# Altium integrated library Actel IGLOO PLUS.IntLib: 96 symbols (part 1 of 11)
Pins are listed as number, name and electrical type; pins without a type are passive.

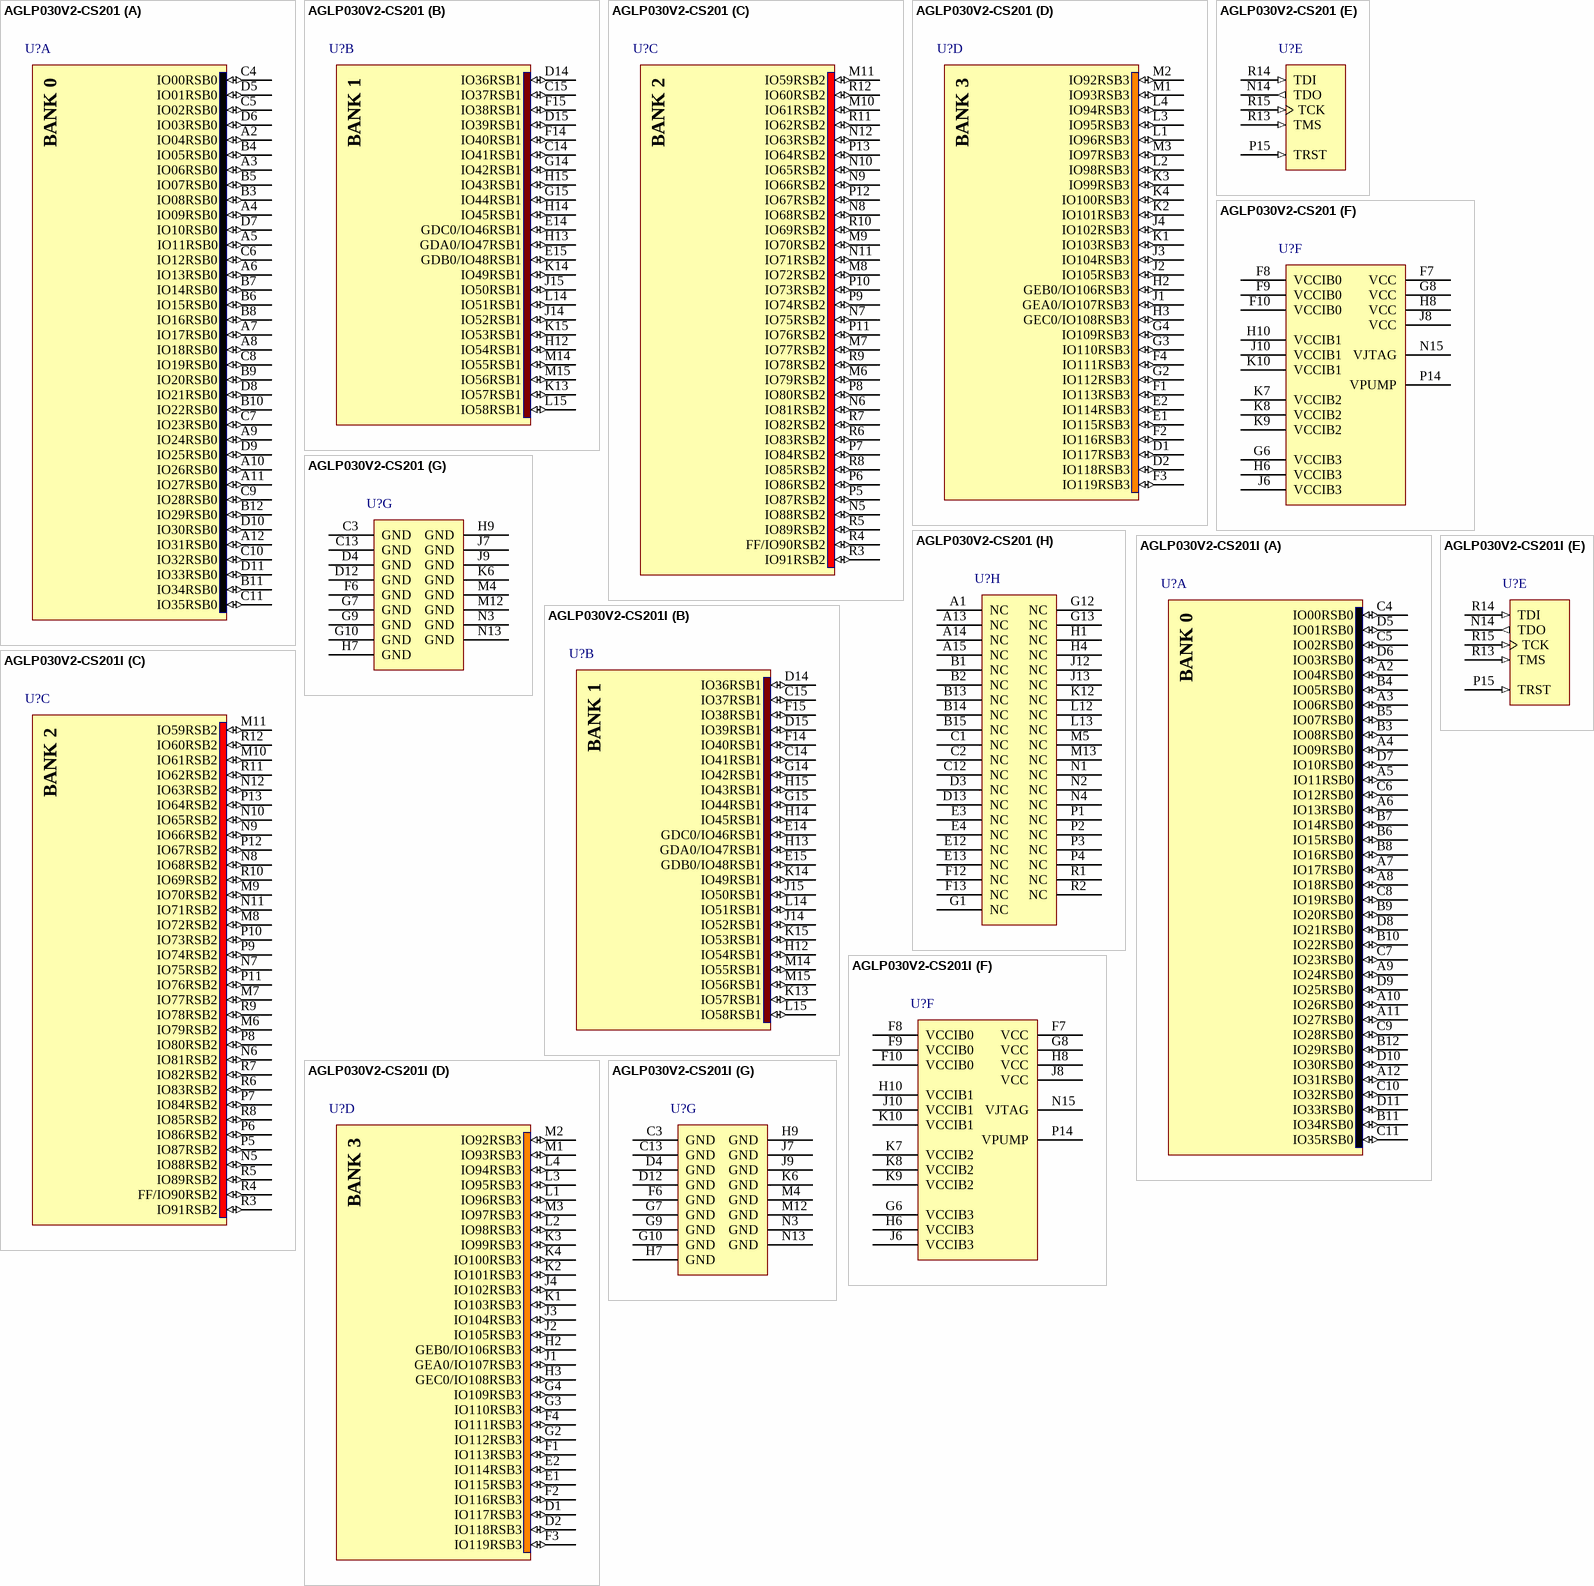
[diagram p0: symbols AGLP030V2-CS201 to AGLP030V2-CS201I]

## AGLP030V2-CS201
designator U?
IGLOO PLUS Low-Power Flash 1.2 to 1.5V FPGA with Flash*Freeze, 120 User IOs, 30K System Gates, 1Kbit Flash ROM, 201-Pin CSP, Commercial Grade; Published: 29-May-2009; DatasheetVersion: Feb-2009; PackageVersion: v11.0, Feb-2009; PackageReference: CS201; Publisher: Altium Limited; PackageDescription: 201-Ball Chip Scale Package 0.5 mm Pitch (CS201); Code_JEDEC: MO-195-AE (Depopulated); ComponentLink1Description: Manufacturer Link; ComponentLink1URL: http://www.actel.com/products/iglooplus/default.aspx; ComponentLink2Description: Datasheet; ComponentLink2URL: http://www.actel.com/documents/IGLOOPLUS_DS.pdf
footprint CS201 (BGA, 201-Leads, Body 8x8mm, Pitch 0.5mm)
3D model AGLP030-CS201 (201-Ball Chip Scale Package 0.5 mm Pitch (CS201))
signal-integrity model AGLP030-CS201 (IGLOO PLUS)
part A pins: A2 IO04RSB0 (io), A3 IO06RSB0 (io), A4 IO09RSB0 (io), A5 IO11RSB0 (io), A6 IO13RSB0 (io), A7 IO17RSB0 (io), A8 IO18RSB0 (io), A9 IO24RSB0 (io), A10 IO26RSB0 (io), A11 IO27RSB0 (io), A12 IO31RSB0 (io), B3 IO08RSB0 (io), B4 IO05RSB0 (io), B5 IO07RSB0 (io), B6 IO15RSB0 (io), B7 IO14RSB0 (io), B8 IO16RSB0 (io), B9 IO20RSB0 (io), B10 IO22RSB0 (io), B11 IO34RSB0 (io), B12 IO29RSB0 (io), C4 IO00RSB0 (io), C5 IO02RSB0 (io), C6 IO12RSB0 (io), C7 IO23RSB0 (io), C8 IO19RSB0 (io), C9 IO28RSB0 (io), C10 IO32RSB0 (io), C11 IO35RSB0 (io), D5 IO01RSB0 (io), D6 IO03RSB0 (io), D7 IO10RSB0 (io), D8 IO21RSB0 (io), D9 IO25RSB0 (io), D10 IO30RSB0 (io), D11 IO33RSB0 (io)
part B pins: C14 IO41RSB1 (io), C15 IO37RSB1 (io), D14 IO36RSB1 (io), D15 IO39RSB1 (io), E14 GDC0/IO46RSB1 (io), E15 GDB0/IO48RSB1 (io), F14 IO40RSB1 (io), F15 IO38RSB1 (io), G14 IO42RSB1 (io), G15 IO44RSB1 (io), H12 IO54RSB1 (io), H13 GDA0/IO47RSB1 (io), H14 IO45RSB1 (io), H15 IO43RSB1 (io), J14 IO52RSB1 (io), J15 IO50RSB1 (io), K13 IO57RSB1 (io), K14 IO49RSB1 (io), K15 IO53RSB1 (io), L14 IO51RSB1 (io), L15 IO58RSB1 (io), M14 IO55RSB1 (io), M15 IO56RSB1 (io)
part C pins: M6 IO79RSB2 (io), M7 IO77RSB2 (io), M8 IO72RSB2 (io), M9 IO70RSB2 (io), M10 IO61RSB2 (io), M11 IO59RSB2 (io), N5 IO88RSB2 (io), N6 IO81RSB2 (io), N7 IO75RSB2 (io), N8 IO68RSB2 (io), N9 IO66RSB2 (io), N10 IO65RSB2 (io), N11 IO71RSB2 (io), N12 IO63RSB2 (io), P5 IO87RSB2 (io), P6 IO86RSB2 (io), P7 IO84RSB2 (io), P8 IO80RSB2 (io), P9 IO74RSB2 (io), P10 IO73RSB2 (io), P11 IO76RSB2 (io), P12 IO67RSB2 (io), P13 IO64RSB2 (io), R3 IO91RSB2 (io), R4 FF/IO90RSB2 (io), R5 IO89RSB2 (io), R6 IO83RSB2 (io), R7 IO82RSB2 (io), R8 IO85RSB2 (io), R9 IO78RSB2 (io), R10 IO69RSB2 (io), R11 IO62RSB2 (io), R12 IO60RSB2 (io)
part D pins: D1 IO117RSB3 (io), D2 IO118RSB3 (io), E1 IO115RSB3 (io), E2 IO114RSB3 (io), F1 IO113RSB3 (io), F2 IO116RSB3 (io), F3 IO119RSB3 (io), F4 IO111RSB3 (io), G2 IO112RSB3 (io), G3 IO110RSB3 (io), G4 IO109RSB3 (io), H2 GEB0/IO106RSB3 (io), H3 GEC0/IO108RSB3 (io), J1 GEA0/IO107RSB3 (io), J2 IO105RSB3 (io), J3 IO104RSB3 (io), J4 IO102RSB3 (io), K1 IO103RSB3 (io), K2 IO101RSB3 (io), K3 IO99RSB3 (io), K4 IO100RSB3 (io), L1 IO96RSB3 (io), L2 IO98RSB3 (io), L3 IO95RSB3 (io), L4 IO94RSB3 (io), M1 IO93RSB3 (io), M2 IO92RSB3 (io), M3 IO97RSB3 (io)
part E pins: N14 TDO (out), P15 TRST (in), R13 TMS (in), R14 TDI (in), R15 TCK (in)
part F pins: F7 VCC (power), F8 VCCIB0 (power), F9 VCCIB0 (power), F10 VCCIB0 (power), G6 VCCIB3 (power), G8 VCC (power), H6 VCCIB3 (power), H8 VCC (power), H10 VCCIB1 (power), J6 VCCIB3 (power), J8 VCC (power), J10 VCCIB1 (power), K7 VCCIB2 (power), K8 VCCIB2 (power), K9 VCCIB2 (power), K10 VCCIB1 (power), N15 VJTAG (power), P14 VPUMP (power)
part G pins: C3 GND (power), C13 GND (power), D4 GND (power), D12 GND (power), F6 GND (power), G7 GND (power), G9 GND (power), G10 GND (power), H7 GND (power), H9 GND (power), J7 GND (power), J9 GND (power), K6 GND (power), M4 GND (power), M12 GND (power), N3 GND (power), N13 GND (power)
part H pins: A1 NC, A13 NC, A14 NC, A15 NC, B1 NC, B2 NC, B13 NC, B14 NC, B15 NC, C1 NC, C2 NC, C12 NC, D3 NC, D13 NC, E3 NC, E4 NC, E12 NC, E13 NC, F12 NC, F13 NC, G1 NC, G12 NC, G13 NC, H1 NC, H4 NC, J12 NC, J13 NC, K12 NC, L12 NC, L13 NC, M5 NC, M13 NC, N1 NC, N2 NC, N4 NC, P1 NC, P2 NC, P3 NC, P4 NC, R1 NC, R2 NC
part A text: BANK 0
part B text: BANK 1
part C text: BANK 2
part D text: BANK 3

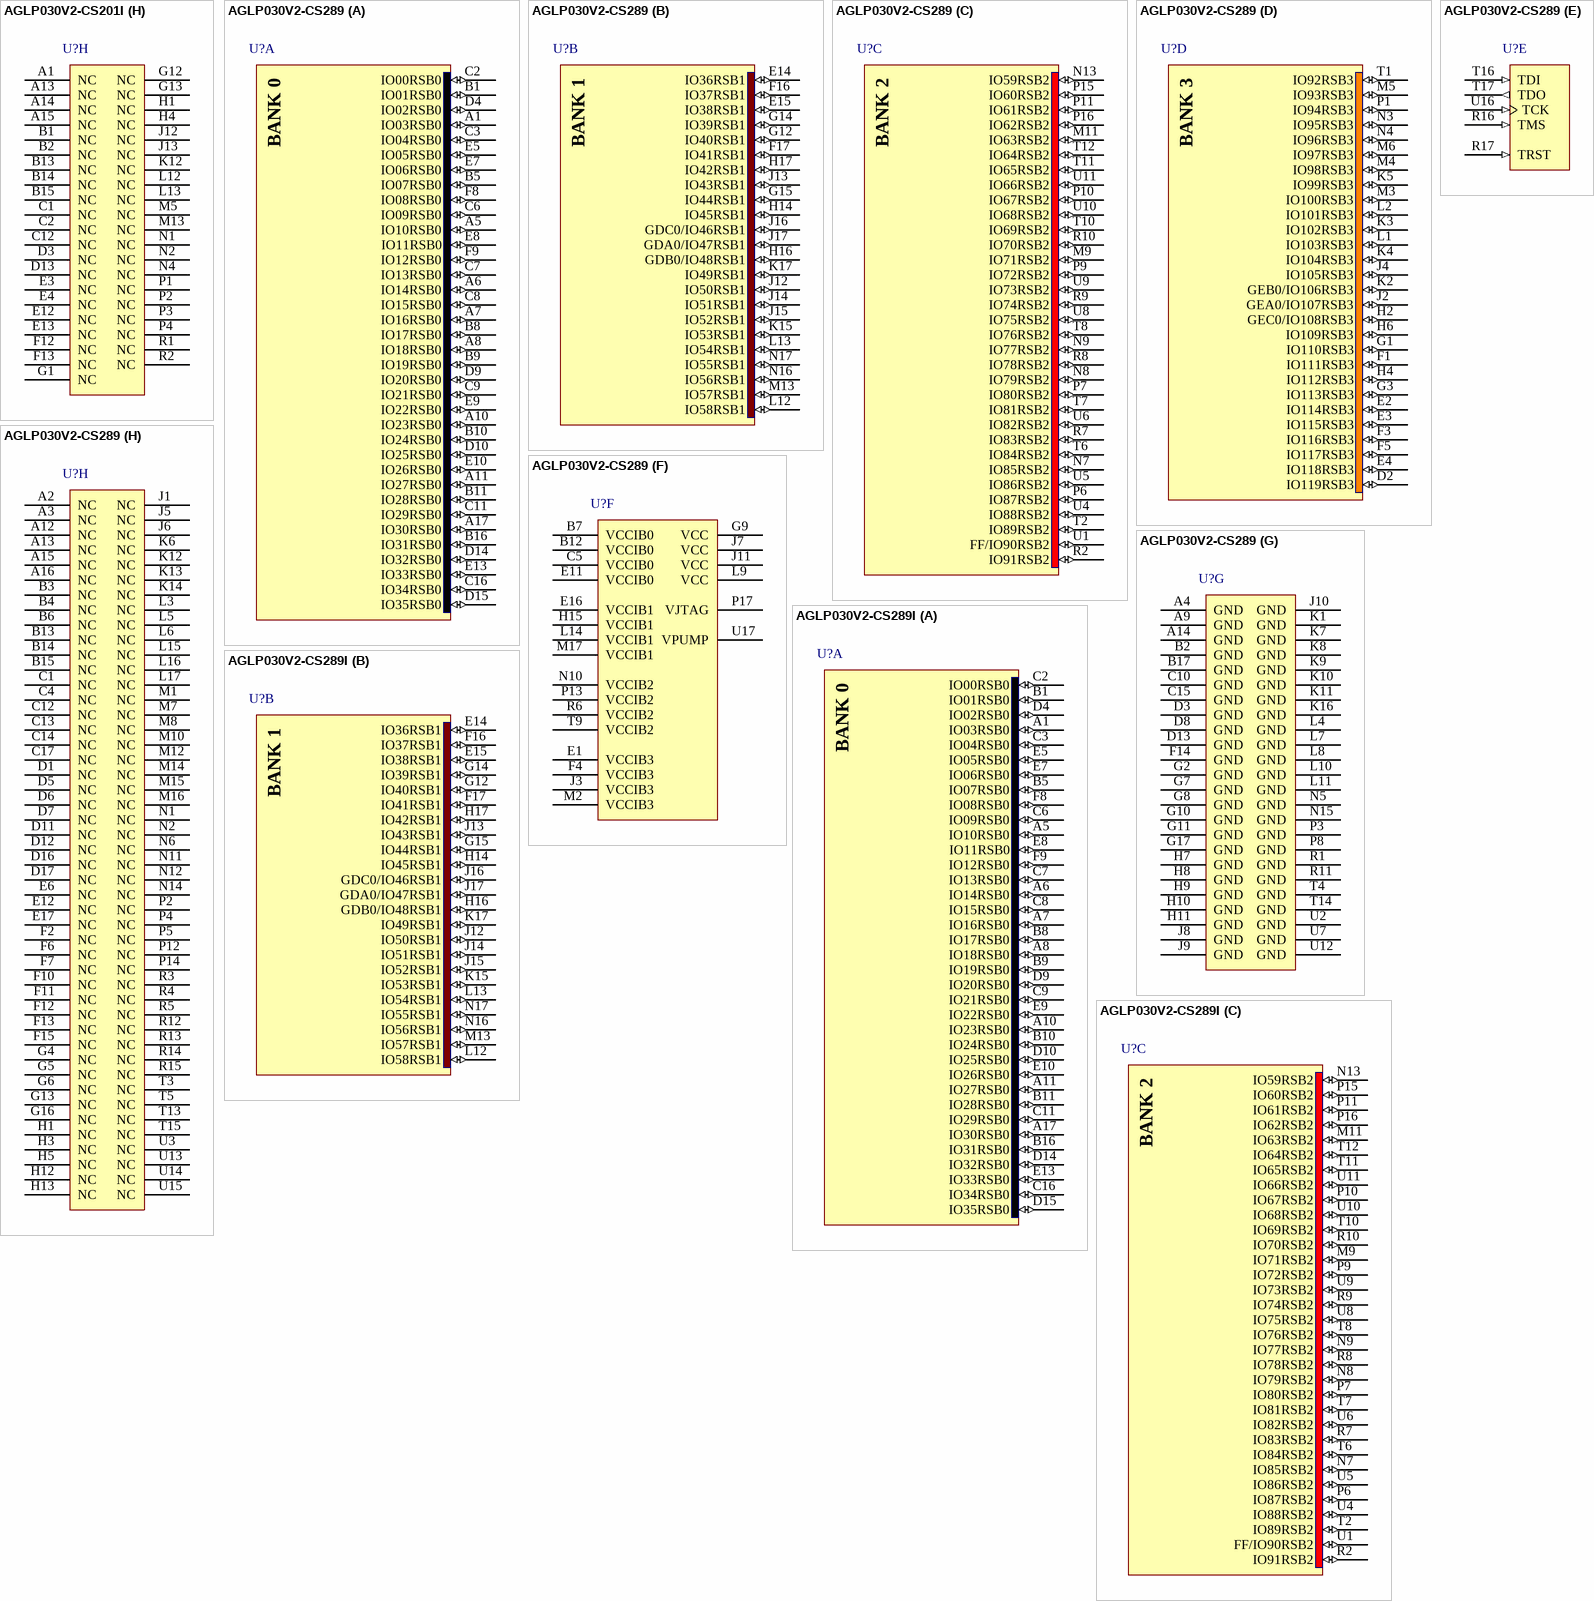
[diagram p1: symbols AGLP030V2-CS201I to AGLP030V2-CS289I]

## AGLP030V2-CS201I
designator U?
IGLOO PLUS Low-Power Flash 1.2 to 1.5V FPGA with Flash*Freeze, 120 User IOs, 30K System Gates, 1Kbit Flash ROM, 201-Pin CSP, Industrial Grade; Published: 29-May-2009; DatasheetVersion: Feb-2009; PackageVersion: v11.0, Feb-2009; PackageReference: CS201; Publisher: Altium Limited; PackageDescription: 201-Ball Chip Scale Package 0.5 mm Pitch (CS201); Code_JEDEC: MO-195-AE (Depopulated); ComponentLink1Description: Manufacturer Link; ComponentLink1URL: http://www.actel.com/products/iglooplus/default.aspx; ComponentLink2Description: Datasheet; ComponentLink2URL: http://www.actel.com/documents/IGLOOPLUS_DS.pdf
footprint CS201 (BGA, 201-Leads, Body 8x8mm, Pitch 0.5mm)
3D model AGLP030-CS201 (201-Ball Chip Scale Package 0.5 mm Pitch (CS201))
signal-integrity model AGLP030-CS201 (IGLOO PLUS)
part A pins: A2 IO04RSB0 (io), A3 IO06RSB0 (io), A4 IO09RSB0 (io), A5 IO11RSB0 (io), A6 IO13RSB0 (io), A7 IO17RSB0 (io), A8 IO18RSB0 (io), A9 IO24RSB0 (io), A10 IO26RSB0 (io), A11 IO27RSB0 (io), A12 IO31RSB0 (io), B3 IO08RSB0 (io), B4 IO05RSB0 (io), B5 IO07RSB0 (io), B6 IO15RSB0 (io), B7 IO14RSB0 (io), B8 IO16RSB0 (io), B9 IO20RSB0 (io), B10 IO22RSB0 (io), B11 IO34RSB0 (io), B12 IO29RSB0 (io), C4 IO00RSB0 (io), C5 IO02RSB0 (io), C6 IO12RSB0 (io), C7 IO23RSB0 (io), C8 IO19RSB0 (io), C9 IO28RSB0 (io), C10 IO32RSB0 (io), C11 IO35RSB0 (io), D5 IO01RSB0 (io), D6 IO03RSB0 (io), D7 IO10RSB0 (io), D8 IO21RSB0 (io), D9 IO25RSB0 (io), D10 IO30RSB0 (io), D11 IO33RSB0 (io)
part B pins: C14 IO41RSB1 (io), C15 IO37RSB1 (io), D14 IO36RSB1 (io), D15 IO39RSB1 (io), E14 GDC0/IO46RSB1 (io), E15 GDB0/IO48RSB1 (io), F14 IO40RSB1 (io), F15 IO38RSB1 (io), G14 IO42RSB1 (io), G15 IO44RSB1 (io), H12 IO54RSB1 (io), H13 GDA0/IO47RSB1 (io), H14 IO45RSB1 (io), H15 IO43RSB1 (io), J14 IO52RSB1 (io), J15 IO50RSB1 (io), K13 IO57RSB1 (io), K14 IO49RSB1 (io), K15 IO53RSB1 (io), L14 IO51RSB1 (io), L15 IO58RSB1 (io), M14 IO55RSB1 (io), M15 IO56RSB1 (io)
part C pins: M6 IO79RSB2 (io), M7 IO77RSB2 (io), M8 IO72RSB2 (io), M9 IO70RSB2 (io), M10 IO61RSB2 (io), M11 IO59RSB2 (io), N5 IO88RSB2 (io), N6 IO81RSB2 (io), N7 IO75RSB2 (io), N8 IO68RSB2 (io), N9 IO66RSB2 (io), N10 IO65RSB2 (io), N11 IO71RSB2 (io), N12 IO63RSB2 (io), P5 IO87RSB2 (io), P6 IO86RSB2 (io), P7 IO84RSB2 (io), P8 IO80RSB2 (io), P9 IO74RSB2 (io), P10 IO73RSB2 (io), P11 IO76RSB2 (io), P12 IO67RSB2 (io), P13 IO64RSB2 (io), R3 IO91RSB2 (io), R4 FF/IO90RSB2 (io), R5 IO89RSB2 (io), R6 IO83RSB2 (io), R7 IO82RSB2 (io), R8 IO85RSB2 (io), R9 IO78RSB2 (io), R10 IO69RSB2 (io), R11 IO62RSB2 (io), R12 IO60RSB2 (io)
part D pins: D1 IO117RSB3 (io), D2 IO118RSB3 (io), E1 IO115RSB3 (io), E2 IO114RSB3 (io), F1 IO113RSB3 (io), F2 IO116RSB3 (io), F3 IO119RSB3 (io), F4 IO111RSB3 (io), G2 IO112RSB3 (io), G3 IO110RSB3 (io), G4 IO109RSB3 (io), H2 GEB0/IO106RSB3 (io), H3 GEC0/IO108RSB3 (io), J1 GEA0/IO107RSB3 (io), J2 IO105RSB3 (io), J3 IO104RSB3 (io), J4 IO102RSB3 (io), K1 IO103RSB3 (io), K2 IO101RSB3 (io), K3 IO99RSB3 (io), K4 IO100RSB3 (io), L1 IO96RSB3 (io), L2 IO98RSB3 (io), L3 IO95RSB3 (io), L4 IO94RSB3 (io), M1 IO93RSB3 (io), M2 IO92RSB3 (io), M3 IO97RSB3 (io)
part E pins: N14 TDO (out), P15 TRST (in), R13 TMS (in), R14 TDI (in), R15 TCK (in)
part F pins: F7 VCC (power), F8 VCCIB0 (power), F9 VCCIB0 (power), F10 VCCIB0 (power), G6 VCCIB3 (power), G8 VCC (power), H6 VCCIB3 (power), H8 VCC (power), H10 VCCIB1 (power), J6 VCCIB3 (power), J8 VCC (power), J10 VCCIB1 (power), K7 VCCIB2 (power), K8 VCCIB2 (power), K9 VCCIB2 (power), K10 VCCIB1 (power), N15 VJTAG (power), P14 VPUMP (power)
part G pins: C3 GND (power), C13 GND (power), D4 GND (power), D12 GND (power), F6 GND (power), G7 GND (power), G9 GND (power), G10 GND (power), H7 GND (power), H9 GND (power), J7 GND (power), J9 GND (power), K6 GND (power), M4 GND (power), M12 GND (power), N3 GND (power), N13 GND (power)
part H pins: A1 NC, A13 NC, A14 NC, A15 NC, B1 NC, B2 NC, B13 NC, B14 NC, B15 NC, C1 NC, C2 NC, C12 NC, D3 NC, D13 NC, E3 NC, E4 NC, E12 NC, E13 NC, F12 NC, F13 NC, G1 NC, G12 NC, G13 NC, H1 NC, H4 NC, J12 NC, J13 NC, K12 NC, L12 NC, L13 NC, M5 NC, M13 NC, N1 NC, N2 NC, N4 NC, P1 NC, P2 NC, P3 NC, P4 NC, R1 NC, R2 NC
part A text: BANK 0
part B text: BANK 1
part C text: BANK 2
part D text: BANK 3

## AGLP030V2-CS289
designator U?
IGLOO PLUS Low-Power Flash 1.2 to 1.5V FPGA with Flash*Freeze, 120 User IOs, 30K System Gates, 1Kbit Flash ROM, 289-Pin CSP, Commercial Grade; Published: 29-May-2009; DatasheetVersion: Feb-2009; PackageVersion: v11.0, Feb-2009; PackageReference: CS289; Publisher: Altium Limited; PackageDescription: 289-Ball Chip Scale Package 0.8 mm Pitch (CS289); ComponentLink1Description: Manufacturer Link; ComponentLink1URL: http://www.actel.com/products/iglooplus/default.aspx; ComponentLink2Description: Datasheet; ComponentLink2URL: http://www.actel.com/documents/IGLOOPLUS_DS.pdf
footprint CS289 (BGA, 289-Leads, Body 14x14mm, Pitch 0.8mm)
3D model AGLP030-CS289 (289-Ball Chip Scale Package 0.8 mm Pitch (CS289))
signal-integrity model AGLP030-CS289 (IGLOO PLUS)
part A pins: A1 IO03RSB0 (io), A5 IO10RSB0 (io), A6 IO14RSB0 (io), A7 IO16RSB0 (io), A8 IO18RSB0 (io), A10 IO23RSB0 (io), A11 IO27RSB0 (io), A17 IO30RSB0 (io), B1 IO01RSB0 (io), B5 IO07RSB0 (io), B8 IO17RSB0 (io), B9 IO19RSB0 (io), B10 IO24RSB0 (io), B11 IO28RSB0 (io), B16 IO31RSB0 (io), C2 IO00RSB0 (io), C3 IO04RSB0 (io), C6 IO09RSB0 (io), C7 IO13RSB0 (io), C8 IO15RSB0 (io), C9 IO21RSB0 (io), C11 IO29RSB0 (io), C16 IO34RSB0 (io), D4 IO02RSB0 (io), D9 IO20RSB0 (io), D10 IO25RSB0 (io), D14 IO32RSB0 (io), D15 IO35RSB0 (io), E5 IO05RSB0 (io), E7 IO06RSB0 (io), E8 IO11RSB0 (io), E9 IO22RSB0 (io), E10 IO26RSB0 (io), E13 IO33RSB0 (io), F8 IO08RSB0 (io), F9 IO12RSB0 (io)
part B pins: E14 IO36RSB1 (io), E15 IO38RSB1 (io), F16 IO37RSB1 (io), F17 IO41RSB1 (io), G12 IO40RSB1 (io), G14 IO39RSB1 (io), G15 IO44RSB1 (io), H14 IO45RSB1 (io), H16 GDB0/IO48RSB1 (io), H17 IO42RSB1 (io), J12 IO50RSB1 (io), J13 IO43RSB1 (io), J14 IO51RSB1 (io), J15 IO52RSB1 (io), J16 GDC0/IO46RSB1 (io), J17 GDA0/IO47RSB1 (io), K15 IO53RSB1 (io), K17 IO49RSB1 (io), L12 IO58RSB1 (io), L13 IO54RSB1 (io), M13 IO57RSB1 (io), N16 IO56RSB1 (io), N17 IO55RSB1 (io)
part C pins: M9 IO71RSB2 (io), M11 IO63RSB2 (io), N7 IO85RSB2 (io), N8 IO79RSB2 (io), N9 IO77RSB2 (io), N13 IO59RSB2 (io), P6 IO87RSB2 (io), P7 IO80RSB2 (io), P9 IO72RSB2 (io), P10 IO67RSB2 (io), P11 IO61RSB2 (io), P15 IO60RSB2 (io), P16 IO62RSB2 (io), R2 IO91RSB2 (io), R7 IO83RSB2 (io), R8 IO78RSB2 (io), R9 IO74RSB2 (io), R10 IO70RSB2 (io), T2 IO89RSB2 (io), T6 IO84RSB2 (io), T7 IO81RSB2 (io), T8 IO76RSB2 (io), T10 IO69RSB2 (io), T11 IO65RSB2 (io), T12 IO64RSB2 (io), U1 FF/IO90RSB2 (io), U4 IO88RSB2 (io), U5 IO86RSB2 (io), U6 IO82RSB2 (io), U8 IO75RSB2 (io), U9 IO73RSB2 (io), U10 IO68RSB2 (io), U11 IO66RSB2 (io)
part D pins: D2 IO119RSB3 (io), E2 IO114RSB3 (io), E3 IO115RSB3 (io), E4 IO118RSB3 (io), F1 IO111RSB3 (io), F3 IO116RSB3 (io), F5 IO117RSB3 (io), G1 IO110RSB3 (io), G3 IO113RSB3 (io), H2 GEC0/IO108RSB3 (io), H4 IO112RSB3 (io), H6 IO109RSB3 (io), J2 GEA0/IO107RSB3 (io), J4 IO105RSB3 (io), K2 GEB0/IO106RSB3 (io), K3 IO102RSB3 (io), K4 IO104RSB3 (io), K5 IO99RSB3 (io), L1 IO103RSB3 (io), L2 IO101RSB3 (io), M3 IO100RSB3 (io), M4 IO98RSB3 (io), M5 IO93RSB3 (io), M6 IO97RSB3 (io), N3 IO95RSB3 (io), N4 IO96RSB3 (io), P1 IO94RSB3 (io), T1 IO92RSB3 (io)
part E pins: R16 TMS (in), R17 TRST (in), T16 TDI (in), T17 TDO (out), U16 TCK (in)
part F pins: B7 VCCIB0 (power), B12 VCCIB0 (power), C5 VCCIB0 (power), E1 VCCIB3 (power), E11 VCCIB0 (power), E16 VCCIB1 (power), F4 VCCIB3 (power), G9 VCC (power), H15 VCCIB1 (power), J3 VCCIB3 (power), J7 VCC (power), J11 VCC (power), L9 VCC (power), L14 VCCIB1 (power), M2 VCCIB3 (power), M17 VCCIB1 (power), N10 VCCIB2 (power), P13 VCCIB2 (power), P17 VJTAG (power), R6 VCCIB2 (power), T9 VCCIB2 (power), U17 VPUMP (power)
part G pins: A4 GND (power), A9 GND (power), A14 GND (power), B2 GND (power), B17 GND (power), C10 GND (power), C15 GND (power), D3 GND (power), D8 GND (power), D13 GND (power), F14 GND (power), G2 GND (power), G7 GND (power), G8 GND (power), G10 GND (power), G11 GND (power), G17 GND (power), H7 GND (power), H8 GND (power), H9 GND (power), H10 GND (power), H11 GND (power), J8 GND (power), J9 GND (power), J10 GND (power), K1 GND (power), K7 GND (power), K8 GND (power), K9 GND (power), K10 GND (power), K11 GND (power), K16 GND (power), L4 GND (power), L7 GND (power), L8 GND (power), L10 GND (power), L11 GND (power), N5 GND (power), N15 GND (power), P3 GND (power), P8 GND (power), R1 GND (power), R11 GND (power), T4 GND (power), T14 GND (power), U2 GND (power), U7 GND (power), U12 GND (power)
part H pins: A2 NC, A3 NC, A12 NC, A13 NC, A15 NC, A16 NC, B3 NC, B4 NC, B6 NC, B13 NC, B14 NC, B15 NC, C1 NC, C4 NC, C12 NC, C13 NC, C14 NC, C17 NC, D1 NC, D5 NC, D6 NC, D7 NC, D11 NC, D12 NC, D16 NC, D17 NC, E6 NC, E12 NC, E17 NC, F2 NC, F6 NC, F7 NC, F10 NC, F11 NC, F12 NC, F13 NC, F15 NC, G4 NC, G5 NC, G6 NC, G13 NC, G16 NC, H1 NC, H3 NC, H5 NC, H12 NC, H13 NC, J1 NC, J5 NC, J6 NC, K6 NC, K12 NC, K13 NC, K14 NC, L3 NC, L5 NC, L6 NC, L15 NC, L16 NC, L17 NC, M1 NC, M7 NC, M8 NC, M10 NC, M12 NC, M14 NC, M15 NC, M16 NC, N1 NC, N2 NC, N6 NC, N11 NC, N12 NC, N14 NC, P2 NC, P4 NC, P5 NC, P12 NC, P14 NC, R3 NC, R4 NC, R5 NC, R12 NC, R13 NC, R14 NC, R15 NC, T3 NC, T5 NC, T13 NC, T15 NC, U3 NC, U13 NC, U14 NC, U15 NC
part A text: BANK 0
part B text: BANK 1
part C text: BANK 2
part D text: BANK 3

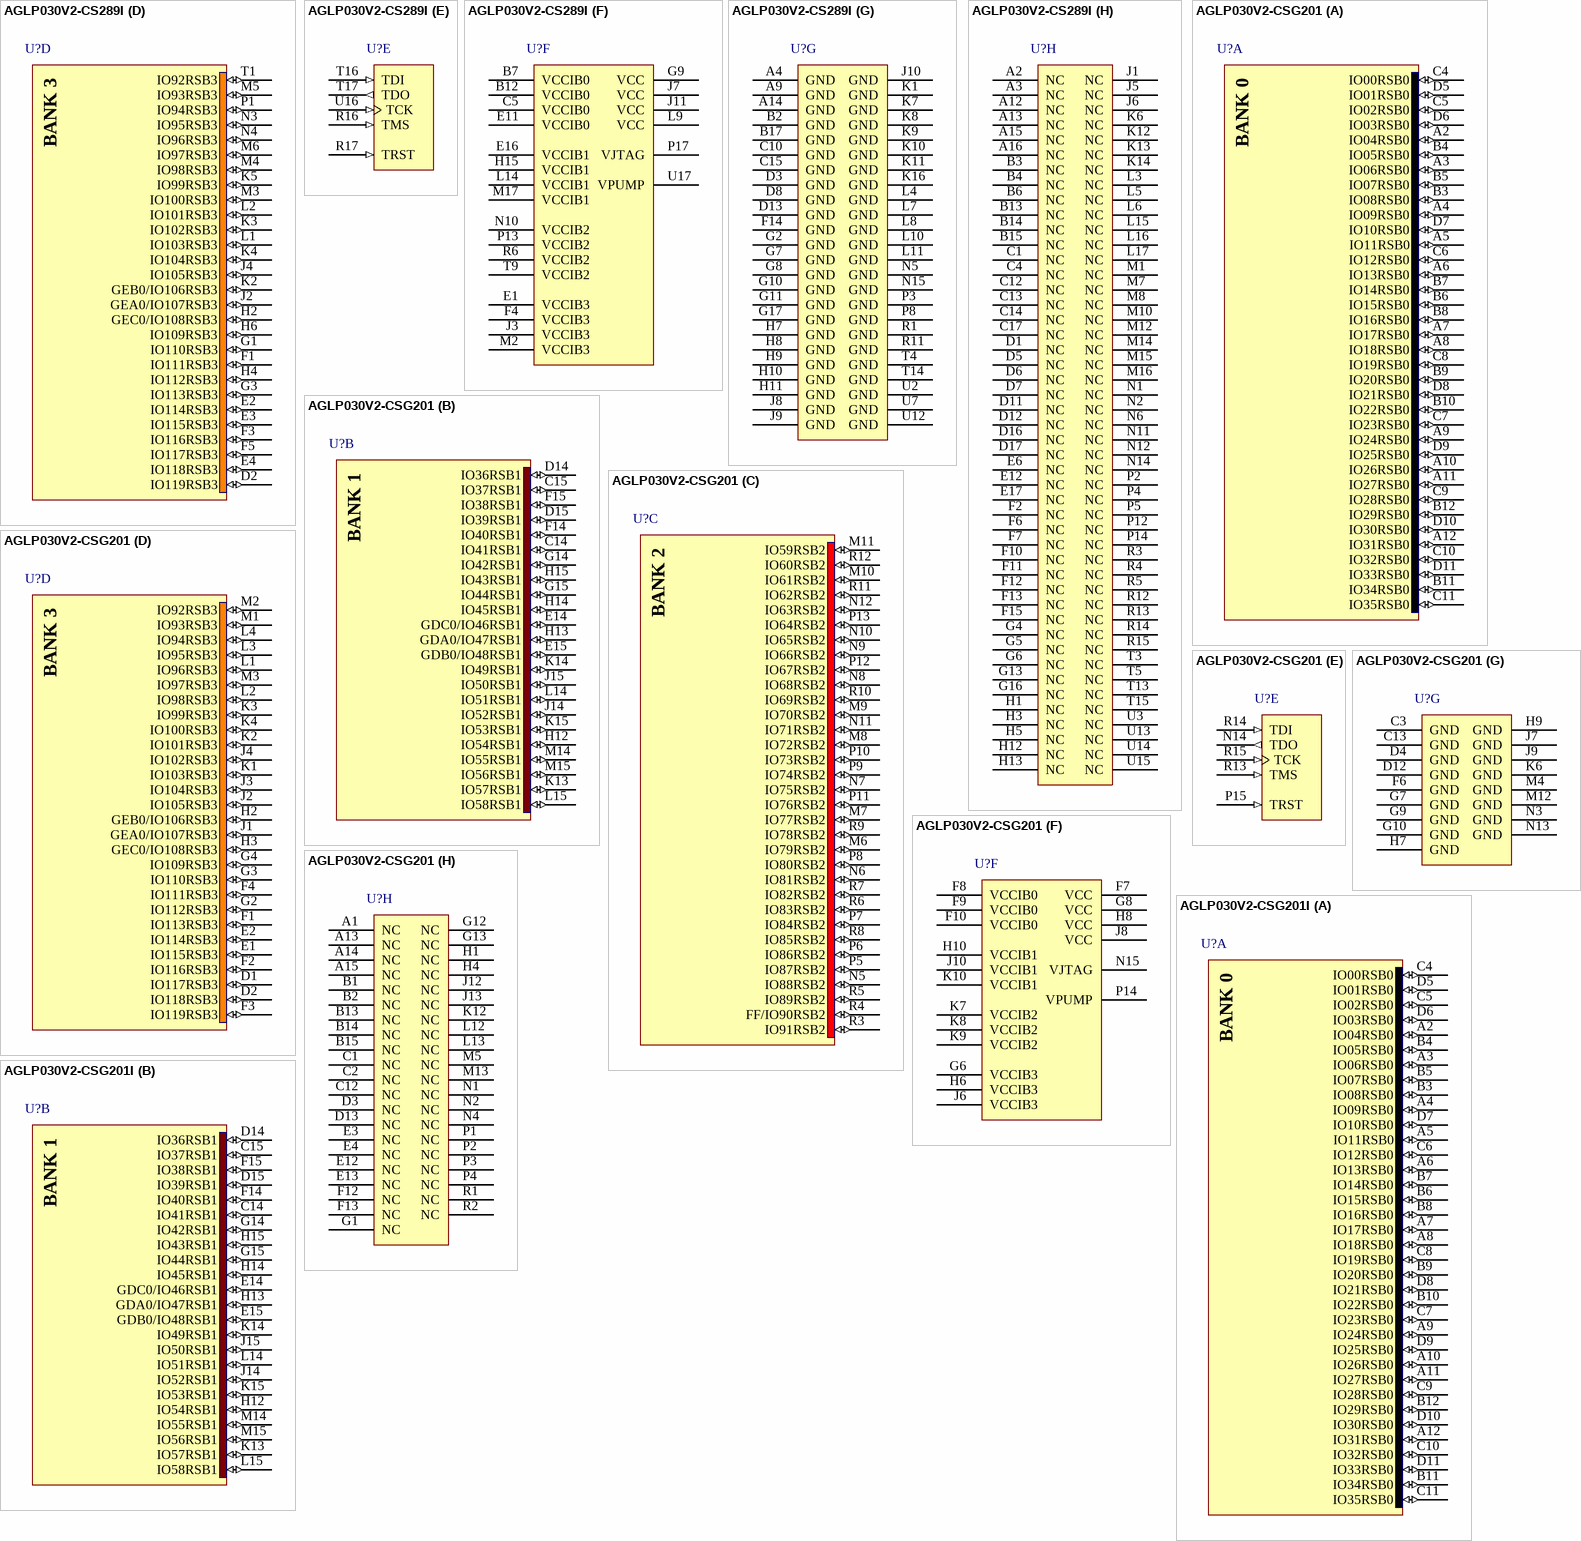
[diagram p2: symbols AGLP030V2-CS289I to AGLP030V2-CSG201I]

## AGLP030V2-CS289I
designator U?
IGLOO PLUS Low-Power Flash 1.2 to 1.5V FPGA with Flash*Freeze, 120 User IOs, 30K System Gates, 1Kbit Flash ROM, 289-Pin CSP, Industrial Grade; Published: 29-May-2009; DatasheetVersion: Feb-2009; PackageVersion: v11.0, Feb-2009; PackageReference: CS289; Publisher: Altium Limited; PackageDescription: 289-Ball Chip Scale Package 0.8 mm Pitch (CS289); ComponentLink1Description: Manufacturer Link; ComponentLink1URL: http://www.actel.com/products/iglooplus/default.aspx; ComponentLink2Description: Datasheet; ComponentLink2URL: http://www.actel.com/documents/IGLOOPLUS_DS.pdf
footprint CS289 (BGA, 289-Leads, Body 14x14mm, Pitch 0.8mm)
3D model AGLP030-CS289 (289-Ball Chip Scale Package 0.8 mm Pitch (CS289))
signal-integrity model AGLP030-CS289 (IGLOO PLUS)
part A pins: A1 IO03RSB0 (io), A5 IO10RSB0 (io), A6 IO14RSB0 (io), A7 IO16RSB0 (io), A8 IO18RSB0 (io), A10 IO23RSB0 (io), A11 IO27RSB0 (io), A17 IO30RSB0 (io), B1 IO01RSB0 (io), B5 IO07RSB0 (io), B8 IO17RSB0 (io), B9 IO19RSB0 (io), B10 IO24RSB0 (io), B11 IO28RSB0 (io), B16 IO31RSB0 (io), C2 IO00RSB0 (io), C3 IO04RSB0 (io), C6 IO09RSB0 (io), C7 IO13RSB0 (io), C8 IO15RSB0 (io), C9 IO21RSB0 (io), C11 IO29RSB0 (io), C16 IO34RSB0 (io), D4 IO02RSB0 (io), D9 IO20RSB0 (io), D10 IO25RSB0 (io), D14 IO32RSB0 (io), D15 IO35RSB0 (io), E5 IO05RSB0 (io), E7 IO06RSB0 (io), E8 IO11RSB0 (io), E9 IO22RSB0 (io), E10 IO26RSB0 (io), E13 IO33RSB0 (io), F8 IO08RSB0 (io), F9 IO12RSB0 (io)
part B pins: E14 IO36RSB1 (io), E15 IO38RSB1 (io), F16 IO37RSB1 (io), F17 IO41RSB1 (io), G12 IO40RSB1 (io), G14 IO39RSB1 (io), G15 IO44RSB1 (io), H14 IO45RSB1 (io), H16 GDB0/IO48RSB1 (io), H17 IO42RSB1 (io), J12 IO50RSB1 (io), J13 IO43RSB1 (io), J14 IO51RSB1 (io), J15 IO52RSB1 (io), J16 GDC0/IO46RSB1 (io), J17 GDA0/IO47RSB1 (io), K15 IO53RSB1 (io), K17 IO49RSB1 (io), L12 IO58RSB1 (io), L13 IO54RSB1 (io), M13 IO57RSB1 (io), N16 IO56RSB1 (io), N17 IO55RSB1 (io)
part C pins: M9 IO71RSB2 (io), M11 IO63RSB2 (io), N7 IO85RSB2 (io), N8 IO79RSB2 (io), N9 IO77RSB2 (io), N13 IO59RSB2 (io), P6 IO87RSB2 (io), P7 IO80RSB2 (io), P9 IO72RSB2 (io), P10 IO67RSB2 (io), P11 IO61RSB2 (io), P15 IO60RSB2 (io), P16 IO62RSB2 (io), R2 IO91RSB2 (io), R7 IO83RSB2 (io), R8 IO78RSB2 (io), R9 IO74RSB2 (io), R10 IO70RSB2 (io), T2 IO89RSB2 (io), T6 IO84RSB2 (io), T7 IO81RSB2 (io), T8 IO76RSB2 (io), T10 IO69RSB2 (io), T11 IO65RSB2 (io), T12 IO64RSB2 (io), U1 FF/IO90RSB2 (io), U4 IO88RSB2 (io), U5 IO86RSB2 (io), U6 IO82RSB2 (io), U8 IO75RSB2 (io), U9 IO73RSB2 (io), U10 IO68RSB2 (io), U11 IO66RSB2 (io)
part D pins: D2 IO119RSB3 (io), E2 IO114RSB3 (io), E3 IO115RSB3 (io), E4 IO118RSB3 (io), F1 IO111RSB3 (io), F3 IO116RSB3 (io), F5 IO117RSB3 (io), G1 IO110RSB3 (io), G3 IO113RSB3 (io), H2 GEC0/IO108RSB3 (io), H4 IO112RSB3 (io), H6 IO109RSB3 (io), J2 GEA0/IO107RSB3 (io), J4 IO105RSB3 (io), K2 GEB0/IO106RSB3 (io), K3 IO102RSB3 (io), K4 IO104RSB3 (io), K5 IO99RSB3 (io), L1 IO103RSB3 (io), L2 IO101RSB3 (io), M3 IO100RSB3 (io), M4 IO98RSB3 (io), M5 IO93RSB3 (io), M6 IO97RSB3 (io), N3 IO95RSB3 (io), N4 IO96RSB3 (io), P1 IO94RSB3 (io), T1 IO92RSB3 (io)
part E pins: R16 TMS (in), R17 TRST (in), T16 TDI (in), T17 TDO (out), U16 TCK (in)
part F pins: B7 VCCIB0 (power), B12 VCCIB0 (power), C5 VCCIB0 (power), E1 VCCIB3 (power), E11 VCCIB0 (power), E16 VCCIB1 (power), F4 VCCIB3 (power), G9 VCC (power), H15 VCCIB1 (power), J3 VCCIB3 (power), J7 VCC (power), J11 VCC (power), L9 VCC (power), L14 VCCIB1 (power), M2 VCCIB3 (power), M17 VCCIB1 (power), N10 VCCIB2 (power), P13 VCCIB2 (power), P17 VJTAG (power), R6 VCCIB2 (power), T9 VCCIB2 (power), U17 VPUMP (power)
part G pins: A4 GND (power), A9 GND (power), A14 GND (power), B2 GND (power), B17 GND (power), C10 GND (power), C15 GND (power), D3 GND (power), D8 GND (power), D13 GND (power), F14 GND (power), G2 GND (power), G7 GND (power), G8 GND (power), G10 GND (power), G11 GND (power), G17 GND (power), H7 GND (power), H8 GND (power), H9 GND (power), H10 GND (power), H11 GND (power), J8 GND (power), J9 GND (power), J10 GND (power), K1 GND (power), K7 GND (power), K8 GND (power), K9 GND (power), K10 GND (power), K11 GND (power), K16 GND (power), L4 GND (power), L7 GND (power), L8 GND (power), L10 GND (power), L11 GND (power), N5 GND (power), N15 GND (power), P3 GND (power), P8 GND (power), R1 GND (power), R11 GND (power), T4 GND (power), T14 GND (power), U2 GND (power), U7 GND (power), U12 GND (power)
part H pins: A2 NC, A3 NC, A12 NC, A13 NC, A15 NC, A16 NC, B3 NC, B4 NC, B6 NC, B13 NC, B14 NC, B15 NC, C1 NC, C4 NC, C12 NC, C13 NC, C14 NC, C17 NC, D1 NC, D5 NC, D6 NC, D7 NC, D11 NC, D12 NC, D16 NC, D17 NC, E6 NC, E12 NC, E17 NC, F2 NC, F6 NC, F7 NC, F10 NC, F11 NC, F12 NC, F13 NC, F15 NC, G4 NC, G5 NC, G6 NC, G13 NC, G16 NC, H1 NC, H3 NC, H5 NC, H12 NC, H13 NC, J1 NC, J5 NC, J6 NC, K6 NC, K12 NC, K13 NC, K14 NC, L3 NC, L5 NC, L6 NC, L15 NC, L16 NC, L17 NC, M1 NC, M7 NC, M8 NC, M10 NC, M12 NC, M14 NC, M15 NC, M16 NC, N1 NC, N2 NC, N6 NC, N11 NC, N12 NC, N14 NC, P2 NC, P4 NC, P5 NC, P12 NC, P14 NC, R3 NC, R4 NC, R5 NC, R12 NC, R13 NC, R14 NC, R15 NC, T3 NC, T5 NC, T13 NC, T15 NC, U3 NC, U13 NC, U14 NC, U15 NC
part A text: BANK 0
part B text: BANK 1
part C text: BANK 2
part D text: BANK 3

## AGLP030V2-CSG201
designator U?
IGLOO PLUS Low-Power Flash 1.2 to 1.5V FPGA with Flash*Freeze, 120 User IOs, 30K System Gates, 1Kbit Flash ROM, 201-Pin CSP, Commercial Grade, Pb-Free; Published: 29-May-2009; DatasheetVersion: Feb-2009; PackageVersion: v11.0, Feb-2009; PackageReference: CS201; Publisher: Altium Limited; PackageDescription: 201-Ball Chip Scale Package 0.5 mm Pitch (CS201); Code_JEDEC: MO-195-AE (Depopulated); ComponentLink1Description: Manufacturer Link; ComponentLink1URL: http://www.actel.com/products/iglooplus/default.aspx; ComponentLink2Description: Datasheet; ComponentLink2URL: http://www.actel.com/documents/IGLOOPLUS_DS.pdf
footprint CS201 (BGA, 201-Leads, Body 8x8mm, Pitch 0.5mm)
3D model AGLP030-CS201 (201-Ball Chip Scale Package 0.5 mm Pitch (CS201))
signal-integrity model AGLP030-CS201 (IGLOO PLUS)
part A pins: A2 IO04RSB0 (io), A3 IO06RSB0 (io), A4 IO09RSB0 (io), A5 IO11RSB0 (io), A6 IO13RSB0 (io), A7 IO17RSB0 (io), A8 IO18RSB0 (io), A9 IO24RSB0 (io), A10 IO26RSB0 (io), A11 IO27RSB0 (io), A12 IO31RSB0 (io), B3 IO08RSB0 (io), B4 IO05RSB0 (io), B5 IO07RSB0 (io), B6 IO15RSB0 (io), B7 IO14RSB0 (io), B8 IO16RSB0 (io), B9 IO20RSB0 (io), B10 IO22RSB0 (io), B11 IO34RSB0 (io), B12 IO29RSB0 (io), C4 IO00RSB0 (io), C5 IO02RSB0 (io), C6 IO12RSB0 (io), C7 IO23RSB0 (io), C8 IO19RSB0 (io), C9 IO28RSB0 (io), C10 IO32RSB0 (io), C11 IO35RSB0 (io), D5 IO01RSB0 (io), D6 IO03RSB0 (io), D7 IO10RSB0 (io), D8 IO21RSB0 (io), D9 IO25RSB0 (io), D10 IO30RSB0 (io), D11 IO33RSB0 (io)
part B pins: C14 IO41RSB1 (io), C15 IO37RSB1 (io), D14 IO36RSB1 (io), D15 IO39RSB1 (io), E14 GDC0/IO46RSB1 (io), E15 GDB0/IO48RSB1 (io), F14 IO40RSB1 (io), F15 IO38RSB1 (io), G14 IO42RSB1 (io), G15 IO44RSB1 (io), H12 IO54RSB1 (io), H13 GDA0/IO47RSB1 (io), H14 IO45RSB1 (io), H15 IO43RSB1 (io), J14 IO52RSB1 (io), J15 IO50RSB1 (io), K13 IO57RSB1 (io), K14 IO49RSB1 (io), K15 IO53RSB1 (io), L14 IO51RSB1 (io), L15 IO58RSB1 (io), M14 IO55RSB1 (io), M15 IO56RSB1 (io)
part C pins: M6 IO79RSB2 (io), M7 IO77RSB2 (io), M8 IO72RSB2 (io), M9 IO70RSB2 (io), M10 IO61RSB2 (io), M11 IO59RSB2 (io), N5 IO88RSB2 (io), N6 IO81RSB2 (io), N7 IO75RSB2 (io), N8 IO68RSB2 (io), N9 IO66RSB2 (io), N10 IO65RSB2 (io), N11 IO71RSB2 (io), N12 IO63RSB2 (io), P5 IO87RSB2 (io), P6 IO86RSB2 (io), P7 IO84RSB2 (io), P8 IO80RSB2 (io), P9 IO74RSB2 (io), P10 IO73RSB2 (io), P11 IO76RSB2 (io), P12 IO67RSB2 (io), P13 IO64RSB2 (io), R3 IO91RSB2 (io), R4 FF/IO90RSB2 (io), R5 IO89RSB2 (io), R6 IO83RSB2 (io), R7 IO82RSB2 (io), R8 IO85RSB2 (io), R9 IO78RSB2 (io), R10 IO69RSB2 (io), R11 IO62RSB2 (io), R12 IO60RSB2 (io)
part D pins: D1 IO117RSB3 (io), D2 IO118RSB3 (io), E1 IO115RSB3 (io), E2 IO114RSB3 (io), F1 IO113RSB3 (io), F2 IO116RSB3 (io), F3 IO119RSB3 (io), F4 IO111RSB3 (io), G2 IO112RSB3 (io), G3 IO110RSB3 (io), G4 IO109RSB3 (io), H2 GEB0/IO106RSB3 (io), H3 GEC0/IO108RSB3 (io), J1 GEA0/IO107RSB3 (io), J2 IO105RSB3 (io), J3 IO104RSB3 (io), J4 IO102RSB3 (io), K1 IO103RSB3 (io), K2 IO101RSB3 (io), K3 IO99RSB3 (io), K4 IO100RSB3 (io), L1 IO96RSB3 (io), L2 IO98RSB3 (io), L3 IO95RSB3 (io), L4 IO94RSB3 (io), M1 IO93RSB3 (io), M2 IO92RSB3 (io), M3 IO97RSB3 (io)
part E pins: N14 TDO (out), P15 TRST (in), R13 TMS (in), R14 TDI (in), R15 TCK (in)
part F pins: F7 VCC (power), F8 VCCIB0 (power), F9 VCCIB0 (power), F10 VCCIB0 (power), G6 VCCIB3 (power), G8 VCC (power), H6 VCCIB3 (power), H8 VCC (power), H10 VCCIB1 (power), J6 VCCIB3 (power), J8 VCC (power), J10 VCCIB1 (power), K7 VCCIB2 (power), K8 VCCIB2 (power), K9 VCCIB2 (power), K10 VCCIB1 (power), N15 VJTAG (power), P14 VPUMP (power)
part G pins: C3 GND (power), C13 GND (power), D4 GND (power), D12 GND (power), F6 GND (power), G7 GND (power), G9 GND (power), G10 GND (power), H7 GND (power), H9 GND (power), J7 GND (power), J9 GND (power), K6 GND (power), M4 GND (power), M12 GND (power), N3 GND (power), N13 GND (power)
part H pins: A1 NC, A13 NC, A14 NC, A15 NC, B1 NC, B2 NC, B13 NC, B14 NC, B15 NC, C1 NC, C2 NC, C12 NC, D3 NC, D13 NC, E3 NC, E4 NC, E12 NC, E13 NC, F12 NC, F13 NC, G1 NC, G12 NC, G13 NC, H1 NC, H4 NC, J12 NC, J13 NC, K12 NC, L12 NC, L13 NC, M5 NC, M13 NC, N1 NC, N2 NC, N4 NC, P1 NC, P2 NC, P3 NC, P4 NC, R1 NC, R2 NC
part A text: BANK 0
part B text: BANK 1
part C text: BANK 2
part D text: BANK 3

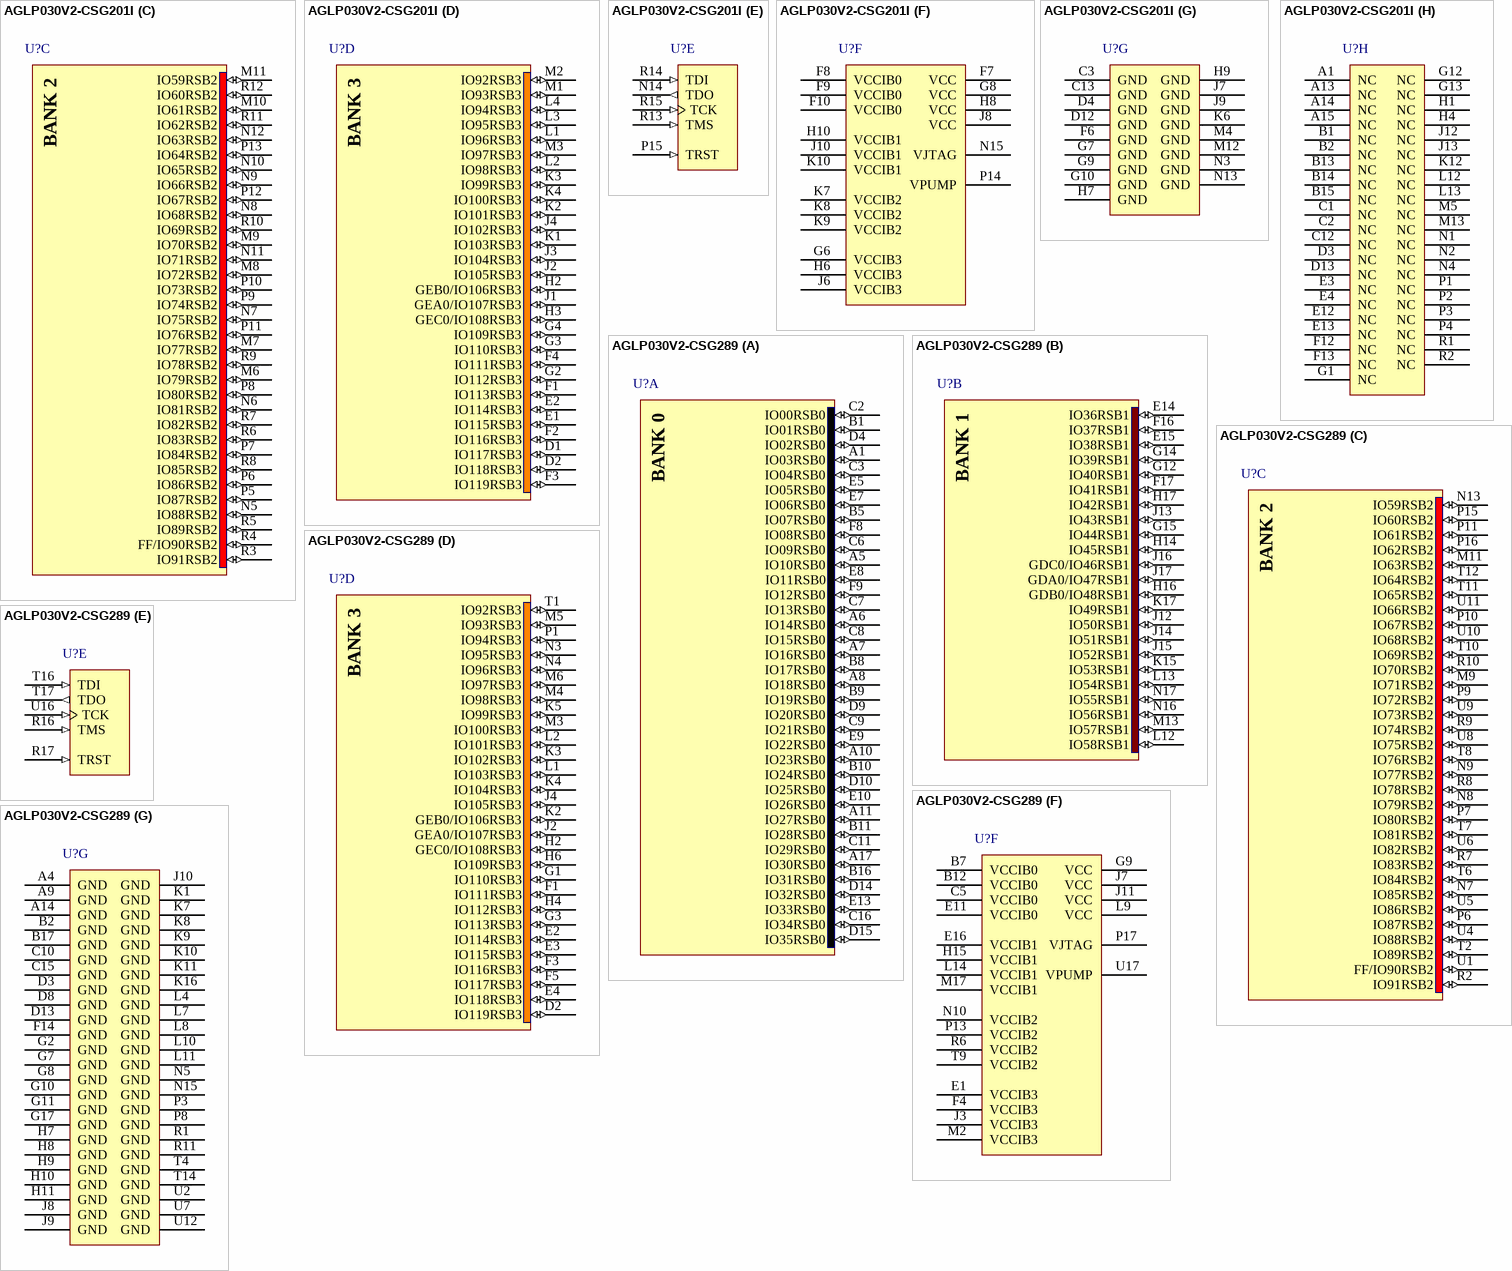
[diagram p3: symbols AGLP030V2-CSG201I to AGLP030V2-CSG289]

## AGLP030V2-CSG201I
designator U?
IGLOO PLUS Low-Power Flash 1.2 to 1.5V FPGA with Flash*Freeze, 120 User IOs, 30K System Gates, 1Kbit Flash ROM, 201-Pin CSP, Industrial Grade, Pb-Free; Published: 29-May-2009; DatasheetVersion: Feb-2009; PackageVersion: v11.0, Feb-2009; PackageReference: CS201; Publisher: Altium Limited; PackageDescription: 201-Ball Chip Scale Package 0.5 mm Pitch (CS201); Code_JEDEC: MO-195-AE (Depopulated); ComponentLink1Description: Manufacturer Link; ComponentLink1URL: http://www.actel.com/products/iglooplus/default.aspx; ComponentLink2Description: Datasheet; ComponentLink2URL: http://www.actel.com/documents/IGLOOPLUS_DS.pdf
footprint CS201 (BGA, 201-Leads, Body 8x8mm, Pitch 0.5mm)
3D model AGLP030-CS201 (201-Ball Chip Scale Package 0.5 mm Pitch (CS201))
signal-integrity model AGLP030-CS201 (IGLOO PLUS)
part A pins: A2 IO04RSB0 (io), A3 IO06RSB0 (io), A4 IO09RSB0 (io), A5 IO11RSB0 (io), A6 IO13RSB0 (io), A7 IO17RSB0 (io), A8 IO18RSB0 (io), A9 IO24RSB0 (io), A10 IO26RSB0 (io), A11 IO27RSB0 (io), A12 IO31RSB0 (io), B3 IO08RSB0 (io), B4 IO05RSB0 (io), B5 IO07RSB0 (io), B6 IO15RSB0 (io), B7 IO14RSB0 (io), B8 IO16RSB0 (io), B9 IO20RSB0 (io), B10 IO22RSB0 (io), B11 IO34RSB0 (io), B12 IO29RSB0 (io), C4 IO00RSB0 (io), C5 IO02RSB0 (io), C6 IO12RSB0 (io), C7 IO23RSB0 (io), C8 IO19RSB0 (io), C9 IO28RSB0 (io), C10 IO32RSB0 (io), C11 IO35RSB0 (io), D5 IO01RSB0 (io), D6 IO03RSB0 (io), D7 IO10RSB0 (io), D8 IO21RSB0 (io), D9 IO25RSB0 (io), D10 IO30RSB0 (io), D11 IO33RSB0 (io)
part B pins: C14 IO41RSB1 (io), C15 IO37RSB1 (io), D14 IO36RSB1 (io), D15 IO39RSB1 (io), E14 GDC0/IO46RSB1 (io), E15 GDB0/IO48RSB1 (io), F14 IO40RSB1 (io), F15 IO38RSB1 (io), G14 IO42RSB1 (io), G15 IO44RSB1 (io), H12 IO54RSB1 (io), H13 GDA0/IO47RSB1 (io), H14 IO45RSB1 (io), H15 IO43RSB1 (io), J14 IO52RSB1 (io), J15 IO50RSB1 (io), K13 IO57RSB1 (io), K14 IO49RSB1 (io), K15 IO53RSB1 (io), L14 IO51RSB1 (io), L15 IO58RSB1 (io), M14 IO55RSB1 (io), M15 IO56RSB1 (io)
part C pins: M6 IO79RSB2 (io), M7 IO77RSB2 (io), M8 IO72RSB2 (io), M9 IO70RSB2 (io), M10 IO61RSB2 (io), M11 IO59RSB2 (io), N5 IO88RSB2 (io), N6 IO81RSB2 (io), N7 IO75RSB2 (io), N8 IO68RSB2 (io), N9 IO66RSB2 (io), N10 IO65RSB2 (io), N11 IO71RSB2 (io), N12 IO63RSB2 (io), P5 IO87RSB2 (io), P6 IO86RSB2 (io), P7 IO84RSB2 (io), P8 IO80RSB2 (io), P9 IO74RSB2 (io), P10 IO73RSB2 (io), P11 IO76RSB2 (io), P12 IO67RSB2 (io), P13 IO64RSB2 (io), R3 IO91RSB2 (io), R4 FF/IO90RSB2 (io), R5 IO89RSB2 (io), R6 IO83RSB2 (io), R7 IO82RSB2 (io), R8 IO85RSB2 (io), R9 IO78RSB2 (io), R10 IO69RSB2 (io), R11 IO62RSB2 (io), R12 IO60RSB2 (io)
part D pins: D1 IO117RSB3 (io), D2 IO118RSB3 (io), E1 IO115RSB3 (io), E2 IO114RSB3 (io), F1 IO113RSB3 (io), F2 IO116RSB3 (io), F3 IO119RSB3 (io), F4 IO111RSB3 (io), G2 IO112RSB3 (io), G3 IO110RSB3 (io), G4 IO109RSB3 (io), H2 GEB0/IO106RSB3 (io), H3 GEC0/IO108RSB3 (io), J1 GEA0/IO107RSB3 (io), J2 IO105RSB3 (io), J3 IO104RSB3 (io), J4 IO102RSB3 (io), K1 IO103RSB3 (io), K2 IO101RSB3 (io), K3 IO99RSB3 (io), K4 IO100RSB3 (io), L1 IO96RSB3 (io), L2 IO98RSB3 (io), L3 IO95RSB3 (io), L4 IO94RSB3 (io), M1 IO93RSB3 (io), M2 IO92RSB3 (io), M3 IO97RSB3 (io)
part E pins: N14 TDO (out), P15 TRST (in), R13 TMS (in), R14 TDI (in), R15 TCK (in)
part F pins: F7 VCC (power), F8 VCCIB0 (power), F9 VCCIB0 (power), F10 VCCIB0 (power), G6 VCCIB3 (power), G8 VCC (power), H6 VCCIB3 (power), H8 VCC (power), H10 VCCIB1 (power), J6 VCCIB3 (power), J8 VCC (power), J10 VCCIB1 (power), K7 VCCIB2 (power), K8 VCCIB2 (power), K9 VCCIB2 (power), K10 VCCIB1 (power), N15 VJTAG (power), P14 VPUMP (power)
part G pins: C3 GND (power), C13 GND (power), D4 GND (power), D12 GND (power), F6 GND (power), G7 GND (power), G9 GND (power), G10 GND (power), H7 GND (power), H9 GND (power), J7 GND (power), J9 GND (power), K6 GND (power), M4 GND (power), M12 GND (power), N3 GND (power), N13 GND (power)
part H pins: A1 NC, A13 NC, A14 NC, A15 NC, B1 NC, B2 NC, B13 NC, B14 NC, B15 NC, C1 NC, C2 NC, C12 NC, D3 NC, D13 NC, E3 NC, E4 NC, E12 NC, E13 NC, F12 NC, F13 NC, G1 NC, G12 NC, G13 NC, H1 NC, H4 NC, J12 NC, J13 NC, K12 NC, L12 NC, L13 NC, M5 NC, M13 NC, N1 NC, N2 NC, N4 NC, P1 NC, P2 NC, P3 NC, P4 NC, R1 NC, R2 NC
part A text: BANK 0
part B text: BANK 1
part C text: BANK 2
part D text: BANK 3

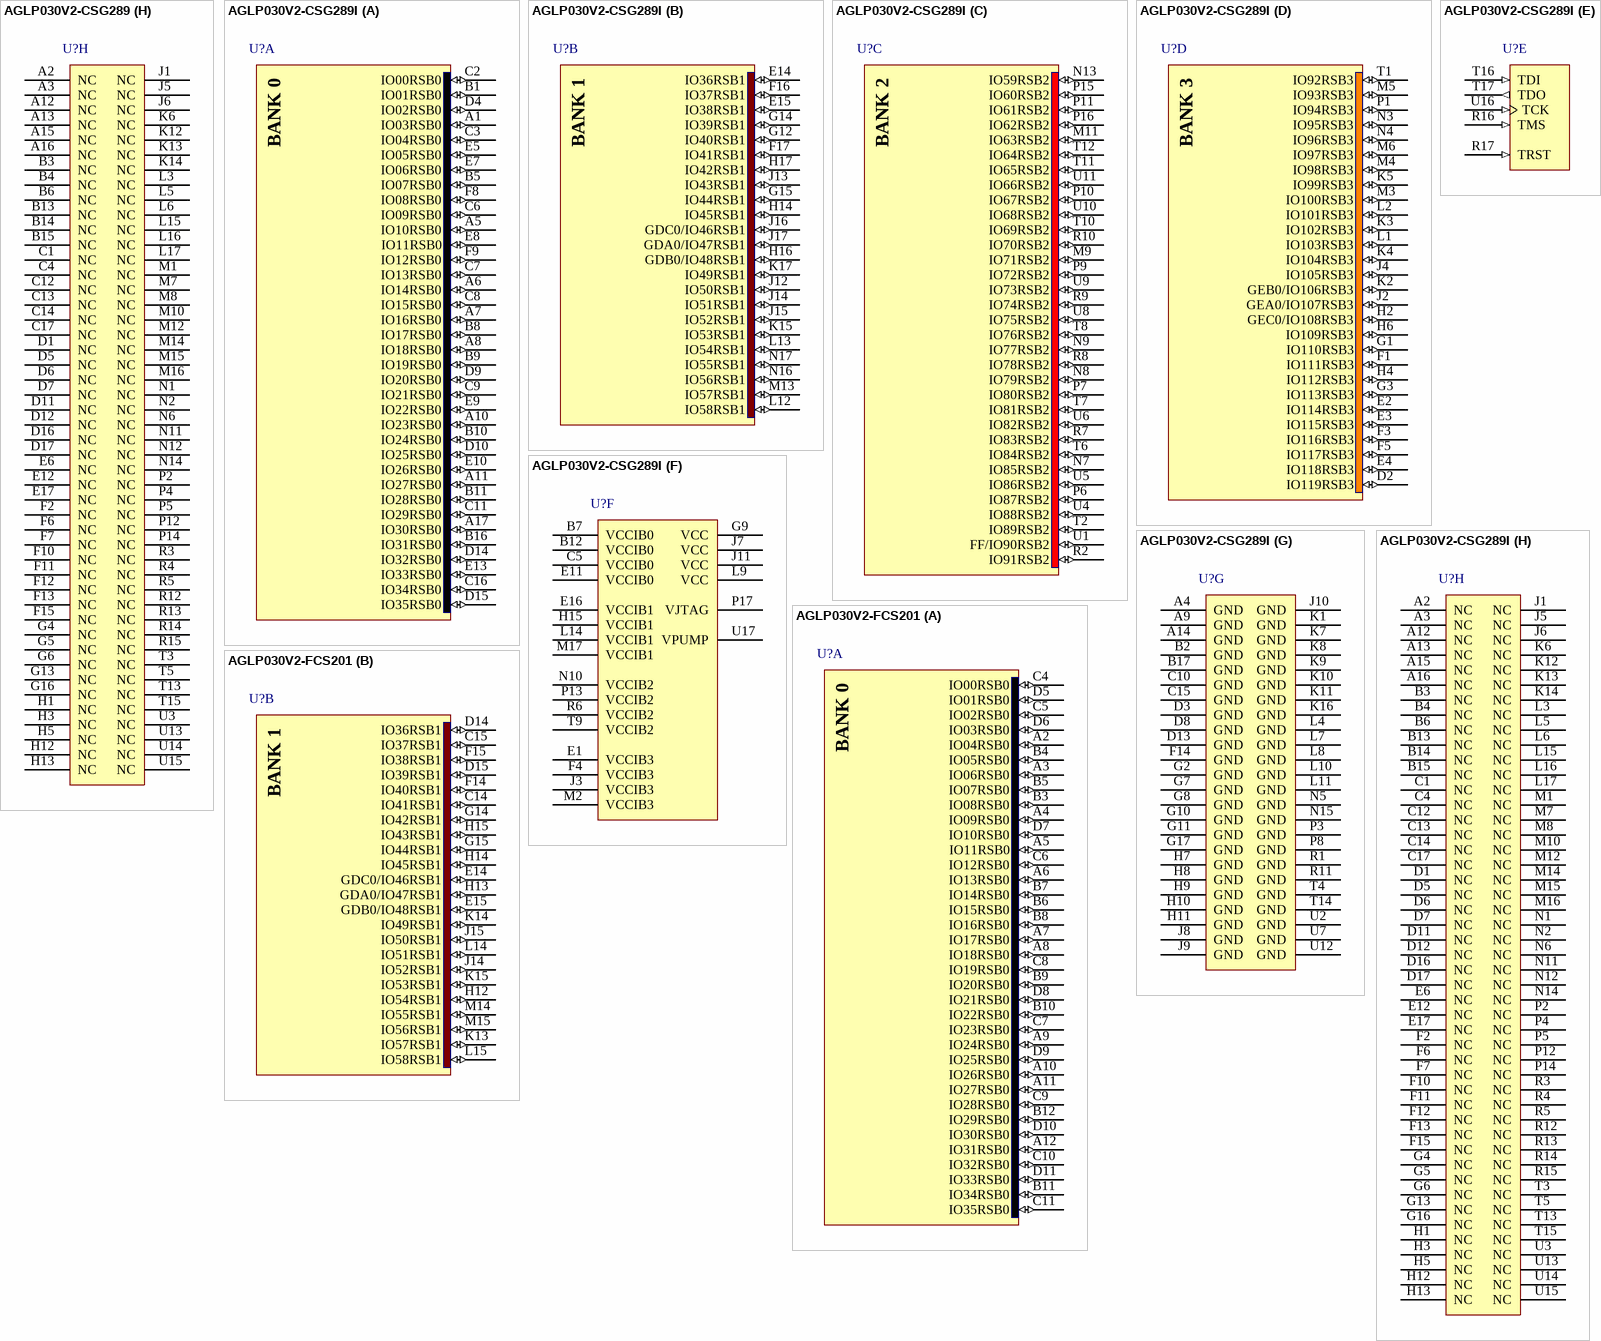
[diagram p4: symbols AGLP030V2-CSG289 to AGLP030V2-FCS201]

## AGLP030V2-CSG289
designator U?
IGLOO PLUS Low-Power Flash 1.2 to 1.5V FPGA with Flash*Freeze, 120 User IOs, 30K System Gates, 1Kbit Flash ROM, 289-Pin CSP, Commercial Grade, Pb-Free; Published: 29-May-2009; DatasheetVersion: Feb-2009; PackageVersion: v11.0, Feb-2009; PackageReference: CS289; Publisher: Altium Limited; PackageDescription: 289-Ball Chip Scale Package 0.8 mm Pitch (CS289); ComponentLink1Description: Manufacturer Link; ComponentLink1URL: http://www.actel.com/products/iglooplus/default.aspx; ComponentLink2Description: Datasheet; ComponentLink2URL: http://www.actel.com/documents/IGLOOPLUS_DS.pdf
footprint CS289 (BGA, 289-Leads, Body 14x14mm, Pitch 0.8mm)
3D model AGLP030-CS289 (289-Ball Chip Scale Package 0.8 mm Pitch (CS289))
signal-integrity model AGLP030-CS289 (IGLOO PLUS)
part A pins: A1 IO03RSB0 (io), A5 IO10RSB0 (io), A6 IO14RSB0 (io), A7 IO16RSB0 (io), A8 IO18RSB0 (io), A10 IO23RSB0 (io), A11 IO27RSB0 (io), A17 IO30RSB0 (io), B1 IO01RSB0 (io), B5 IO07RSB0 (io), B8 IO17RSB0 (io), B9 IO19RSB0 (io), B10 IO24RSB0 (io), B11 IO28RSB0 (io), B16 IO31RSB0 (io), C2 IO00RSB0 (io), C3 IO04RSB0 (io), C6 IO09RSB0 (io), C7 IO13RSB0 (io), C8 IO15RSB0 (io), C9 IO21RSB0 (io), C11 IO29RSB0 (io), C16 IO34RSB0 (io), D4 IO02RSB0 (io), D9 IO20RSB0 (io), D10 IO25RSB0 (io), D14 IO32RSB0 (io), D15 IO35RSB0 (io), E5 IO05RSB0 (io), E7 IO06RSB0 (io), E8 IO11RSB0 (io), E9 IO22RSB0 (io), E10 IO26RSB0 (io), E13 IO33RSB0 (io), F8 IO08RSB0 (io), F9 IO12RSB0 (io)
part B pins: E14 IO36RSB1 (io), E15 IO38RSB1 (io), F16 IO37RSB1 (io), F17 IO41RSB1 (io), G12 IO40RSB1 (io), G14 IO39RSB1 (io), G15 IO44RSB1 (io), H14 IO45RSB1 (io), H16 GDB0/IO48RSB1 (io), H17 IO42RSB1 (io), J12 IO50RSB1 (io), J13 IO43RSB1 (io), J14 IO51RSB1 (io), J15 IO52RSB1 (io), J16 GDC0/IO46RSB1 (io), J17 GDA0/IO47RSB1 (io), K15 IO53RSB1 (io), K17 IO49RSB1 (io), L12 IO58RSB1 (io), L13 IO54RSB1 (io), M13 IO57RSB1 (io), N16 IO56RSB1 (io), N17 IO55RSB1 (io)
part C pins: M9 IO71RSB2 (io), M11 IO63RSB2 (io), N7 IO85RSB2 (io), N8 IO79RSB2 (io), N9 IO77RSB2 (io), N13 IO59RSB2 (io), P6 IO87RSB2 (io), P7 IO80RSB2 (io), P9 IO72RSB2 (io), P10 IO67RSB2 (io), P11 IO61RSB2 (io), P15 IO60RSB2 (io), P16 IO62RSB2 (io), R2 IO91RSB2 (io), R7 IO83RSB2 (io), R8 IO78RSB2 (io), R9 IO74RSB2 (io), R10 IO70RSB2 (io), T2 IO89RSB2 (io), T6 IO84RSB2 (io), T7 IO81RSB2 (io), T8 IO76RSB2 (io), T10 IO69RSB2 (io), T11 IO65RSB2 (io), T12 IO64RSB2 (io), U1 FF/IO90RSB2 (io), U4 IO88RSB2 (io), U5 IO86RSB2 (io), U6 IO82RSB2 (io), U8 IO75RSB2 (io), U9 IO73RSB2 (io), U10 IO68RSB2 (io), U11 IO66RSB2 (io)
part D pins: D2 IO119RSB3 (io), E2 IO114RSB3 (io), E3 IO115RSB3 (io), E4 IO118RSB3 (io), F1 IO111RSB3 (io), F3 IO116RSB3 (io), F5 IO117RSB3 (io), G1 IO110RSB3 (io), G3 IO113RSB3 (io), H2 GEC0/IO108RSB3 (io), H4 IO112RSB3 (io), H6 IO109RSB3 (io), J2 GEA0/IO107RSB3 (io), J4 IO105RSB3 (io), K2 GEB0/IO106RSB3 (io), K3 IO102RSB3 (io), K4 IO104RSB3 (io), K5 IO99RSB3 (io), L1 IO103RSB3 (io), L2 IO101RSB3 (io), M3 IO100RSB3 (io), M4 IO98RSB3 (io), M5 IO93RSB3 (io), M6 IO97RSB3 (io), N3 IO95RSB3 (io), N4 IO96RSB3 (io), P1 IO94RSB3 (io), T1 IO92RSB3 (io)
part E pins: R16 TMS (in), R17 TRST (in), T16 TDI (in), T17 TDO (out), U16 TCK (in)
part F pins: B7 VCCIB0 (power), B12 VCCIB0 (power), C5 VCCIB0 (power), E1 VCCIB3 (power), E11 VCCIB0 (power), E16 VCCIB1 (power), F4 VCCIB3 (power), G9 VCC (power), H15 VCCIB1 (power), J3 VCCIB3 (power), J7 VCC (power), J11 VCC (power), L9 VCC (power), L14 VCCIB1 (power), M2 VCCIB3 (power), M17 VCCIB1 (power), N10 VCCIB2 (power), P13 VCCIB2 (power), P17 VJTAG (power), R6 VCCIB2 (power), T9 VCCIB2 (power), U17 VPUMP (power)
part G pins: A4 GND (power), A9 GND (power), A14 GND (power), B2 GND (power), B17 GND (power), C10 GND (power), C15 GND (power), D3 GND (power), D8 GND (power), D13 GND (power), F14 GND (power), G2 GND (power), G7 GND (power), G8 GND (power), G10 GND (power), G11 GND (power), G17 GND (power), H7 GND (power), H8 GND (power), H9 GND (power), H10 GND (power), H11 GND (power), J8 GND (power), J9 GND (power), J10 GND (power), K1 GND (power), K7 GND (power), K8 GND (power), K9 GND (power), K10 GND (power), K11 GND (power), K16 GND (power), L4 GND (power), L7 GND (power), L8 GND (power), L10 GND (power), L11 GND (power), N5 GND (power), N15 GND (power), P3 GND (power), P8 GND (power), R1 GND (power), R11 GND (power), T4 GND (power), T14 GND (power), U2 GND (power), U7 GND (power), U12 GND (power)
part H pins: A2 NC, A3 NC, A12 NC, A13 NC, A15 NC, A16 NC, B3 NC, B4 NC, B6 NC, B13 NC, B14 NC, B15 NC, C1 NC, C4 NC, C12 NC, C13 NC, C14 NC, C17 NC, D1 NC, D5 NC, D6 NC, D7 NC, D11 NC, D12 NC, D16 NC, D17 NC, E6 NC, E12 NC, E17 NC, F2 NC, F6 NC, F7 NC, F10 NC, F11 NC, F12 NC, F13 NC, F15 NC, G4 NC, G5 NC, G6 NC, G13 NC, G16 NC, H1 NC, H3 NC, H5 NC, H12 NC, H13 NC, J1 NC, J5 NC, J6 NC, K6 NC, K12 NC, K13 NC, K14 NC, L3 NC, L5 NC, L6 NC, L15 NC, L16 NC, L17 NC, M1 NC, M7 NC, M8 NC, M10 NC, M12 NC, M14 NC, M15 NC, M16 NC, N1 NC, N2 NC, N6 NC, N11 NC, N12 NC, N14 NC, P2 NC, P4 NC, P5 NC, P12 NC, P14 NC, R3 NC, R4 NC, R5 NC, R12 NC, R13 NC, R14 NC, R15 NC, T3 NC, T5 NC, T13 NC, T15 NC, U3 NC, U13 NC, U14 NC, U15 NC
part A text: BANK 0
part B text: BANK 1
part C text: BANK 2
part D text: BANK 3

## AGLP030V2-CSG289I
designator U?
IGLOO PLUS Low-Power Flash 1.2 to 1.5V FPGA with Flash*Freeze, 120 User IOs, 30K System Gates, 1Kbit Flash ROM, 289-Pin CSP, Industrial Grade, Pb-Free; Published: 29-May-2009; DatasheetVersion: Feb-2009; PackageVersion: v11.0, Feb-2009; PackageReference: CS289; Publisher: Altium Limited; PackageDescription: 289-Ball Chip Scale Package 0.8 mm Pitch (CS289); ComponentLink1Description: Manufacturer Link; ComponentLink1URL: http://www.actel.com/products/iglooplus/default.aspx; ComponentLink2Description: Datasheet; ComponentLink2URL: http://www.actel.com/documents/IGLOOPLUS_DS.pdf
footprint CS289 (BGA, 289-Leads, Body 14x14mm, Pitch 0.8mm)
3D model AGLP030-CS289 (289-Ball Chip Scale Package 0.8 mm Pitch (CS289))
signal-integrity model AGLP030-CS289 (IGLOO PLUS)
part A pins: A1 IO03RSB0 (io), A5 IO10RSB0 (io), A6 IO14RSB0 (io), A7 IO16RSB0 (io), A8 IO18RSB0 (io), A10 IO23RSB0 (io), A11 IO27RSB0 (io), A17 IO30RSB0 (io), B1 IO01RSB0 (io), B5 IO07RSB0 (io), B8 IO17RSB0 (io), B9 IO19RSB0 (io), B10 IO24RSB0 (io), B11 IO28RSB0 (io), B16 IO31RSB0 (io), C2 IO00RSB0 (io), C3 IO04RSB0 (io), C6 IO09RSB0 (io), C7 IO13RSB0 (io), C8 IO15RSB0 (io), C9 IO21RSB0 (io), C11 IO29RSB0 (io), C16 IO34RSB0 (io), D4 IO02RSB0 (io), D9 IO20RSB0 (io), D10 IO25RSB0 (io), D14 IO32RSB0 (io), D15 IO35RSB0 (io), E5 IO05RSB0 (io), E7 IO06RSB0 (io), E8 IO11RSB0 (io), E9 IO22RSB0 (io), E10 IO26RSB0 (io), E13 IO33RSB0 (io), F8 IO08RSB0 (io), F9 IO12RSB0 (io)
part B pins: E14 IO36RSB1 (io), E15 IO38RSB1 (io), F16 IO37RSB1 (io), F17 IO41RSB1 (io), G12 IO40RSB1 (io), G14 IO39RSB1 (io), G15 IO44RSB1 (io), H14 IO45RSB1 (io), H16 GDB0/IO48RSB1 (io), H17 IO42RSB1 (io), J12 IO50RSB1 (io), J13 IO43RSB1 (io), J14 IO51RSB1 (io), J15 IO52RSB1 (io), J16 GDC0/IO46RSB1 (io), J17 GDA0/IO47RSB1 (io), K15 IO53RSB1 (io), K17 IO49RSB1 (io), L12 IO58RSB1 (io), L13 IO54RSB1 (io), M13 IO57RSB1 (io), N16 IO56RSB1 (io), N17 IO55RSB1 (io)
part C pins: M9 IO71RSB2 (io), M11 IO63RSB2 (io), N7 IO85RSB2 (io), N8 IO79RSB2 (io), N9 IO77RSB2 (io), N13 IO59RSB2 (io), P6 IO87RSB2 (io), P7 IO80RSB2 (io), P9 IO72RSB2 (io), P10 IO67RSB2 (io), P11 IO61RSB2 (io), P15 IO60RSB2 (io), P16 IO62RSB2 (io), R2 IO91RSB2 (io), R7 IO83RSB2 (io), R8 IO78RSB2 (io), R9 IO74RSB2 (io), R10 IO70RSB2 (io), T2 IO89RSB2 (io), T6 IO84RSB2 (io), T7 IO81RSB2 (io), T8 IO76RSB2 (io), T10 IO69RSB2 (io), T11 IO65RSB2 (io), T12 IO64RSB2 (io), U1 FF/IO90RSB2 (io), U4 IO88RSB2 (io), U5 IO86RSB2 (io), U6 IO82RSB2 (io), U8 IO75RSB2 (io), U9 IO73RSB2 (io), U10 IO68RSB2 (io), U11 IO66RSB2 (io)
part D pins: D2 IO119RSB3 (io), E2 IO114RSB3 (io), E3 IO115RSB3 (io), E4 IO118RSB3 (io), F1 IO111RSB3 (io), F3 IO116RSB3 (io), F5 IO117RSB3 (io), G1 IO110RSB3 (io), G3 IO113RSB3 (io), H2 GEC0/IO108RSB3 (io), H4 IO112RSB3 (io), H6 IO109RSB3 (io), J2 GEA0/IO107RSB3 (io), J4 IO105RSB3 (io), K2 GEB0/IO106RSB3 (io), K3 IO102RSB3 (io), K4 IO104RSB3 (io), K5 IO99RSB3 (io), L1 IO103RSB3 (io), L2 IO101RSB3 (io), M3 IO100RSB3 (io), M4 IO98RSB3 (io), M5 IO93RSB3 (io), M6 IO97RSB3 (io), N3 IO95RSB3 (io), N4 IO96RSB3 (io), P1 IO94RSB3 (io), T1 IO92RSB3 (io)
part E pins: R16 TMS (in), R17 TRST (in), T16 TDI (in), T17 TDO (out), U16 TCK (in)
part F pins: B7 VCCIB0 (power), B12 VCCIB0 (power), C5 VCCIB0 (power), E1 VCCIB3 (power), E11 VCCIB0 (power), E16 VCCIB1 (power), F4 VCCIB3 (power), G9 VCC (power), H15 VCCIB1 (power), J3 VCCIB3 (power), J7 VCC (power), J11 VCC (power), L9 VCC (power), L14 VCCIB1 (power), M2 VCCIB3 (power), M17 VCCIB1 (power), N10 VCCIB2 (power), P13 VCCIB2 (power), P17 VJTAG (power), R6 VCCIB2 (power), T9 VCCIB2 (power), U17 VPUMP (power)
part G pins: A4 GND (power), A9 GND (power), A14 GND (power), B2 GND (power), B17 GND (power), C10 GND (power), C15 GND (power), D3 GND (power), D8 GND (power), D13 GND (power), F14 GND (power), G2 GND (power), G7 GND (power), G8 GND (power), G10 GND (power), G11 GND (power), G17 GND (power), H7 GND (power), H8 GND (power), H9 GND (power), H10 GND (power), H11 GND (power), J8 GND (power), J9 GND (power), J10 GND (power), K1 GND (power), K7 GND (power), K8 GND (power), K9 GND (power), K10 GND (power), K11 GND (power), K16 GND (power), L4 GND (power), L7 GND (power), L8 GND (power), L10 GND (power), L11 GND (power), N5 GND (power), N15 GND (power), P3 GND (power), P8 GND (power), R1 GND (power), R11 GND (power), T4 GND (power), T14 GND (power), U2 GND (power), U7 GND (power), U12 GND (power)
part H pins: A2 NC, A3 NC, A12 NC, A13 NC, A15 NC, A16 NC, B3 NC, B4 NC, B6 NC, B13 NC, B14 NC, B15 NC, C1 NC, C4 NC, C12 NC, C13 NC, C14 NC, C17 NC, D1 NC, D5 NC, D6 NC, D7 NC, D11 NC, D12 NC, D16 NC, D17 NC, E6 NC, E12 NC, E17 NC, F2 NC, F6 NC, F7 NC, F10 NC, F11 NC, F12 NC, F13 NC, F15 NC, G4 NC, G5 NC, G6 NC, G13 NC, G16 NC, H1 NC, H3 NC, H5 NC, H12 NC, H13 NC, J1 NC, J5 NC, J6 NC, K6 NC, K12 NC, K13 NC, K14 NC, L3 NC, L5 NC, L6 NC, L15 NC, L16 NC, L17 NC, M1 NC, M7 NC, M8 NC, M10 NC, M12 NC, M14 NC, M15 NC, M16 NC, N1 NC, N2 NC, N6 NC, N11 NC, N12 NC, N14 NC, P2 NC, P4 NC, P5 NC, P12 NC, P14 NC, R3 NC, R4 NC, R5 NC, R12 NC, R13 NC, R14 NC, R15 NC, T3 NC, T5 NC, T13 NC, T15 NC, U3 NC, U13 NC, U14 NC, U15 NC
part A text: BANK 0
part B text: BANK 1
part C text: BANK 2
part D text: BANK 3

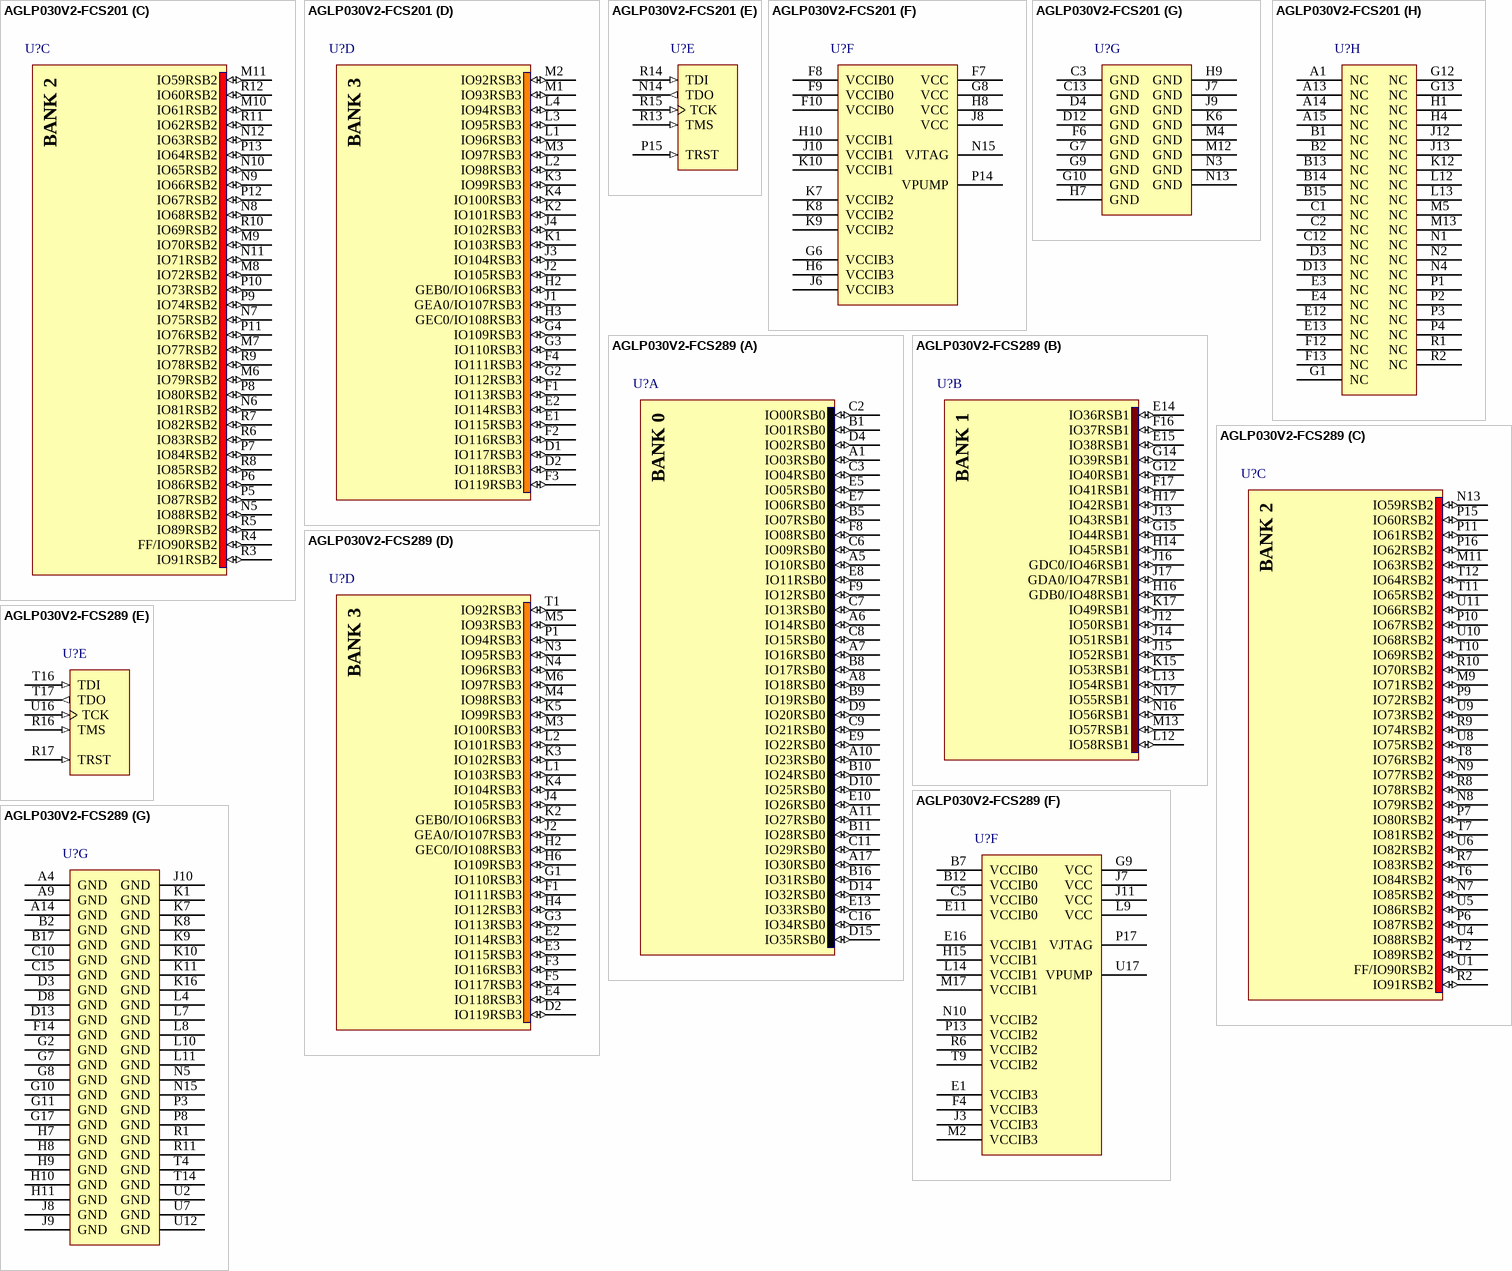
[diagram p5: symbols AGLP030V2-FCS201 to AGLP030V2-FCS289]

## AGLP030V2-FCS201
designator U?
IGLOO PLUS Low-Power Flash 1.2 to 1.5V FPGA with Flash*Freeze, 120 User IOs, 30K System Gates, 1Kbit Flash ROM, 201-Pin CSP, Commercial Grade; Published: 29-May-2009; DatasheetVersion: Feb-2009; PackageVersion: v11.0, Feb-2009; PackageReference: CS201; Publisher: Altium Limited; PackageDescription: 201-Ball Chip Scale Package 0.5 mm Pitch (CS201); Code_JEDEC: MO-195-AE (Depopulated); ComponentLink1Description: Manufacturer Link; ComponentLink1URL: http://www.actel.com/products/iglooplus/default.aspx; ComponentLink2Description: Datasheet; ComponentLink2URL: http://www.actel.com/documents/IGLOOPLUS_DS.pdf
footprint CS201 (BGA, 201-Leads, Body 8x8mm, Pitch 0.5mm)
3D model AGLP030-CS201 (201-Ball Chip Scale Package 0.5 mm Pitch (CS201))
signal-integrity model AGLP030-CS201 (IGLOO PLUS)
part A pins: A2 IO04RSB0 (io), A3 IO06RSB0 (io), A4 IO09RSB0 (io), A5 IO11RSB0 (io), A6 IO13RSB0 (io), A7 IO17RSB0 (io), A8 IO18RSB0 (io), A9 IO24RSB0 (io), A10 IO26RSB0 (io), A11 IO27RSB0 (io), A12 IO31RSB0 (io), B3 IO08RSB0 (io), B4 IO05RSB0 (io), B5 IO07RSB0 (io), B6 IO15RSB0 (io), B7 IO14RSB0 (io), B8 IO16RSB0 (io), B9 IO20RSB0 (io), B10 IO22RSB0 (io), B11 IO34RSB0 (io), B12 IO29RSB0 (io), C4 IO00RSB0 (io), C5 IO02RSB0 (io), C6 IO12RSB0 (io), C7 IO23RSB0 (io), C8 IO19RSB0 (io), C9 IO28RSB0 (io), C10 IO32RSB0 (io), C11 IO35RSB0 (io), D5 IO01RSB0 (io), D6 IO03RSB0 (io), D7 IO10RSB0 (io), D8 IO21RSB0 (io), D9 IO25RSB0 (io), D10 IO30RSB0 (io), D11 IO33RSB0 (io)
part B pins: C14 IO41RSB1 (io), C15 IO37RSB1 (io), D14 IO36RSB1 (io), D15 IO39RSB1 (io), E14 GDC0/IO46RSB1 (io), E15 GDB0/IO48RSB1 (io), F14 IO40RSB1 (io), F15 IO38RSB1 (io), G14 IO42RSB1 (io), G15 IO44RSB1 (io), H12 IO54RSB1 (io), H13 GDA0/IO47RSB1 (io), H14 IO45RSB1 (io), H15 IO43RSB1 (io), J14 IO52RSB1 (io), J15 IO50RSB1 (io), K13 IO57RSB1 (io), K14 IO49RSB1 (io), K15 IO53RSB1 (io), L14 IO51RSB1 (io), L15 IO58RSB1 (io), M14 IO55RSB1 (io), M15 IO56RSB1 (io)
part C pins: M6 IO79RSB2 (io), M7 IO77RSB2 (io), M8 IO72RSB2 (io), M9 IO70RSB2 (io), M10 IO61RSB2 (io), M11 IO59RSB2 (io), N5 IO88RSB2 (io), N6 IO81RSB2 (io), N7 IO75RSB2 (io), N8 IO68RSB2 (io), N9 IO66RSB2 (io), N10 IO65RSB2 (io), N11 IO71RSB2 (io), N12 IO63RSB2 (io), P5 IO87RSB2 (io), P6 IO86RSB2 (io), P7 IO84RSB2 (io), P8 IO80RSB2 (io), P9 IO74RSB2 (io), P10 IO73RSB2 (io), P11 IO76RSB2 (io), P12 IO67RSB2 (io), P13 IO64RSB2 (io), R3 IO91RSB2 (io), R4 FF/IO90RSB2 (io), R5 IO89RSB2 (io), R6 IO83RSB2 (io), R7 IO82RSB2 (io), R8 IO85RSB2 (io), R9 IO78RSB2 (io), R10 IO69RSB2 (io), R11 IO62RSB2 (io), R12 IO60RSB2 (io)
part D pins: D1 IO117RSB3 (io), D2 IO118RSB3 (io), E1 IO115RSB3 (io), E2 IO114RSB3 (io), F1 IO113RSB3 (io), F2 IO116RSB3 (io), F3 IO119RSB3 (io), F4 IO111RSB3 (io), G2 IO112RSB3 (io), G3 IO110RSB3 (io), G4 IO109RSB3 (io), H2 GEB0/IO106RSB3 (io), H3 GEC0/IO108RSB3 (io), J1 GEA0/IO107RSB3 (io), J2 IO105RSB3 (io), J3 IO104RSB3 (io), J4 IO102RSB3 (io), K1 IO103RSB3 (io), K2 IO101RSB3 (io), K3 IO99RSB3 (io), K4 IO100RSB3 (io), L1 IO96RSB3 (io), L2 IO98RSB3 (io), L3 IO95RSB3 (io), L4 IO94RSB3 (io), M1 IO93RSB3 (io), M2 IO92RSB3 (io), M3 IO97RSB3 (io)
part E pins: N14 TDO (out), P15 TRST (in), R13 TMS (in), R14 TDI (in), R15 TCK (in)
part F pins: F7 VCC (power), F8 VCCIB0 (power), F9 VCCIB0 (power), F10 VCCIB0 (power), G6 VCCIB3 (power), G8 VCC (power), H6 VCCIB3 (power), H8 VCC (power), H10 VCCIB1 (power), J6 VCCIB3 (power), J8 VCC (power), J10 VCCIB1 (power), K7 VCCIB2 (power), K8 VCCIB2 (power), K9 VCCIB2 (power), K10 VCCIB1 (power), N15 VJTAG (power), P14 VPUMP (power)
part G pins: C3 GND (power), C13 GND (power), D4 GND (power), D12 GND (power), F6 GND (power), G7 GND (power), G9 GND (power), G10 GND (power), H7 GND (power), H9 GND (power), J7 GND (power), J9 GND (power), K6 GND (power), M4 GND (power), M12 GND (power), N3 GND (power), N13 GND (power)
part H pins: A1 NC, A13 NC, A14 NC, A15 NC, B1 NC, B2 NC, B13 NC, B14 NC, B15 NC, C1 NC, C2 NC, C12 NC, D3 NC, D13 NC, E3 NC, E4 NC, E12 NC, E13 NC, F12 NC, F13 NC, G1 NC, G12 NC, G13 NC, H1 NC, H4 NC, J12 NC, J13 NC, K12 NC, L12 NC, L13 NC, M5 NC, M13 NC, N1 NC, N2 NC, N4 NC, P1 NC, P2 NC, P3 NC, P4 NC, R1 NC, R2 NC
part A text: BANK 0
part B text: BANK 1
part C text: BANK 2
part D text: BANK 3

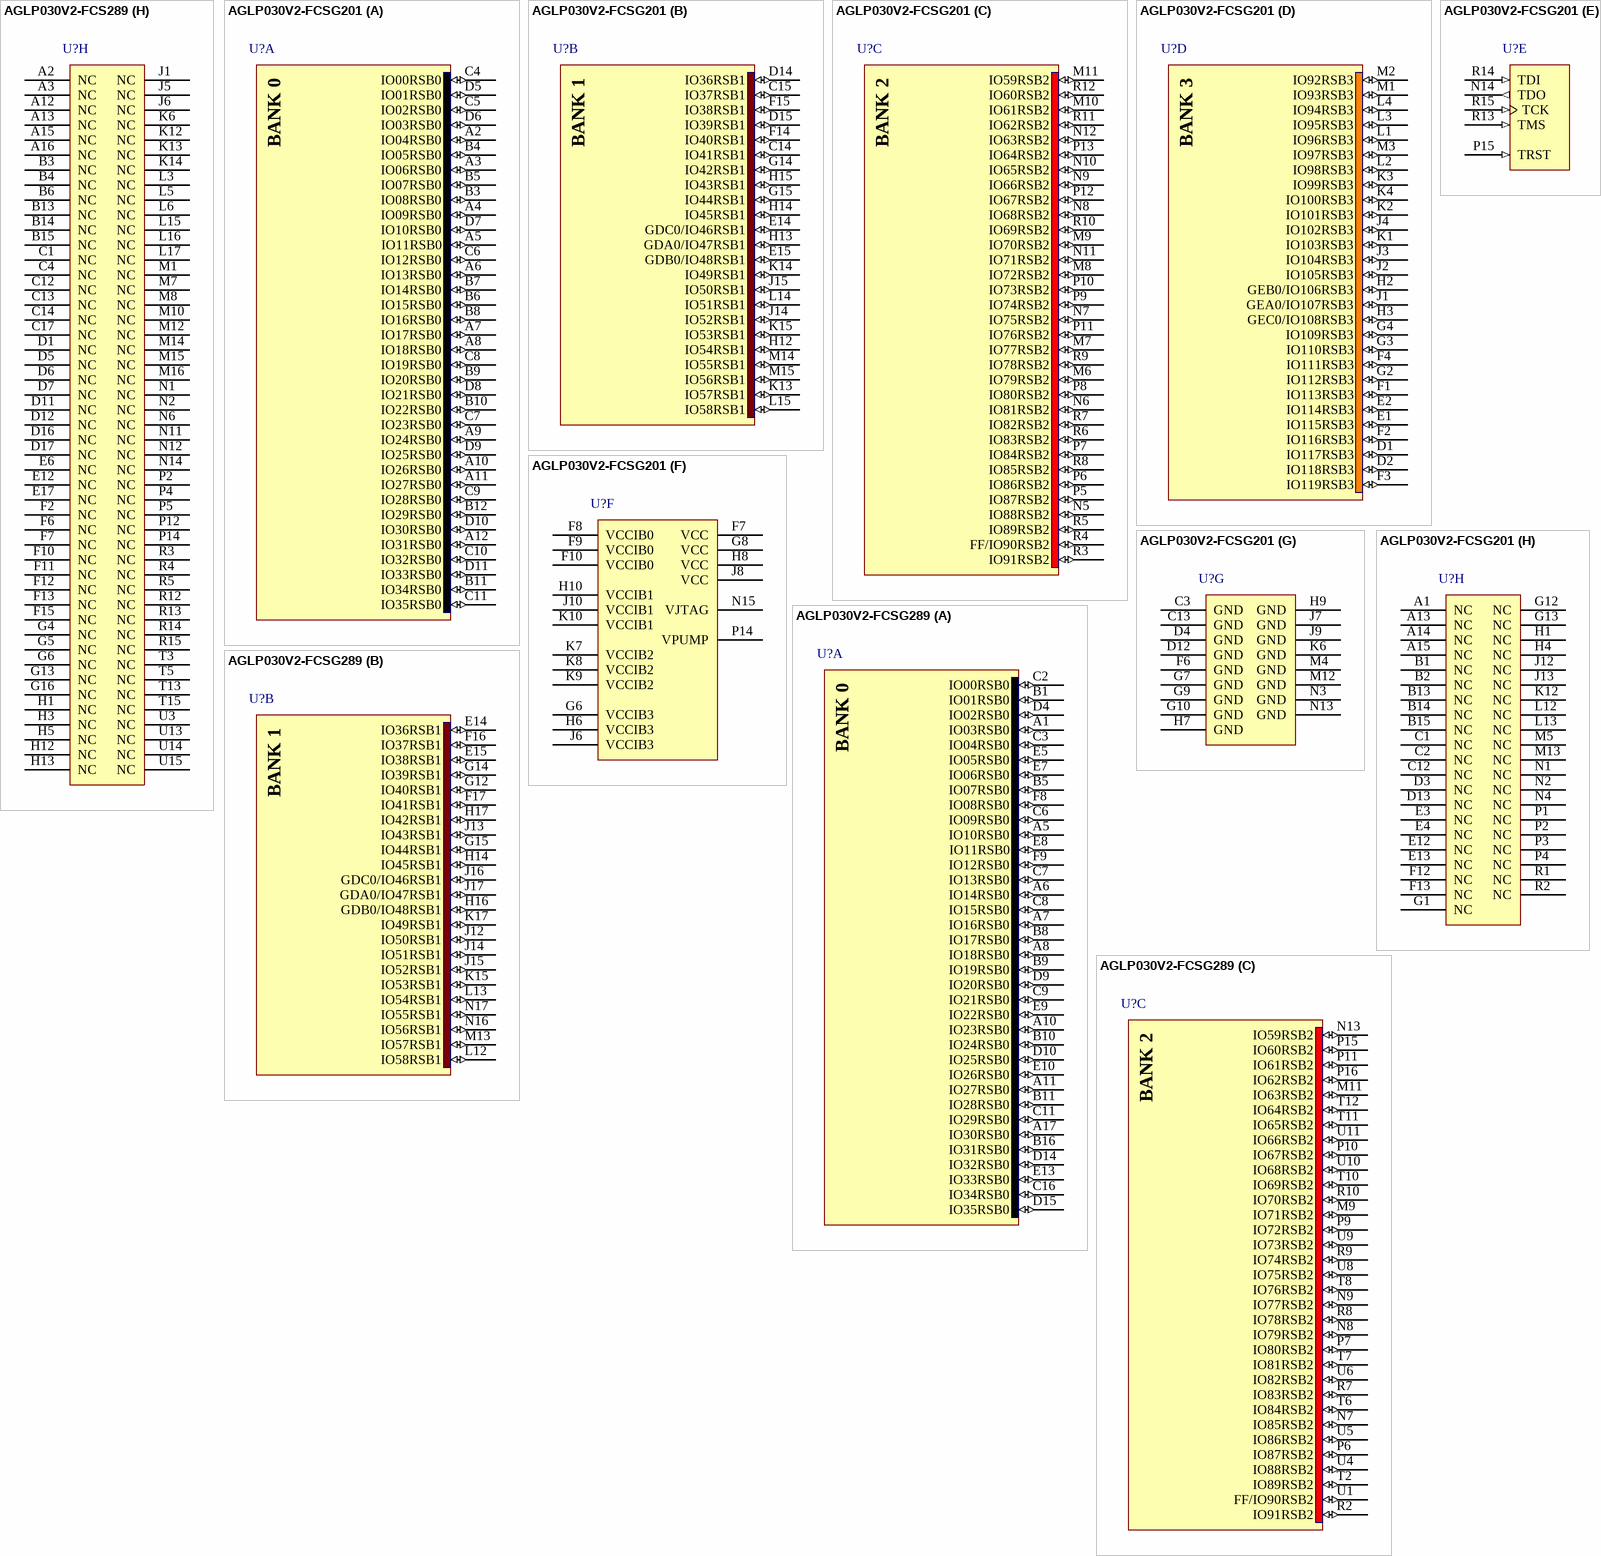
[diagram p6: symbols AGLP030V2-FCS289 to AGLP030V2-FCSG289]

## AGLP030V2-FCS289
designator U?
IGLOO PLUS Low-Power Flash 1.2 to 1.5V FPGA with Flash*Freeze, 120 User IOs, 30K System Gates, 1Kbit Flash ROM, 289-Pin CSP, Commercial Grade; Published: 29-May-2009; DatasheetVersion: Feb-2009; PackageVersion: v11.0, Feb-2009; PackageReference: CS289; Publisher: Altium Limited; PackageDescription: 289-Ball Chip Scale Package 0.8 mm Pitch (CS289); ComponentLink1Description: Manufacturer Link; ComponentLink1URL: http://www.actel.com/products/iglooplus/default.aspx; ComponentLink2Description: Datasheet; ComponentLink2URL: http://www.actel.com/documents/IGLOOPLUS_DS.pdf
footprint CS289 (BGA, 289-Leads, Body 14x14mm, Pitch 0.8mm)
3D model AGLP030-CS289 (289-Ball Chip Scale Package 0.8 mm Pitch (CS289))
signal-integrity model AGLP030-CS289 (IGLOO PLUS)
part A pins: A1 IO03RSB0 (io), A5 IO10RSB0 (io), A6 IO14RSB0 (io), A7 IO16RSB0 (io), A8 IO18RSB0 (io), A10 IO23RSB0 (io), A11 IO27RSB0 (io), A17 IO30RSB0 (io), B1 IO01RSB0 (io), B5 IO07RSB0 (io), B8 IO17RSB0 (io), B9 IO19RSB0 (io), B10 IO24RSB0 (io), B11 IO28RSB0 (io), B16 IO31RSB0 (io), C2 IO00RSB0 (io), C3 IO04RSB0 (io), C6 IO09RSB0 (io), C7 IO13RSB0 (io), C8 IO15RSB0 (io), C9 IO21RSB0 (io), C11 IO29RSB0 (io), C16 IO34RSB0 (io), D4 IO02RSB0 (io), D9 IO20RSB0 (io), D10 IO25RSB0 (io), D14 IO32RSB0 (io), D15 IO35RSB0 (io), E5 IO05RSB0 (io), E7 IO06RSB0 (io), E8 IO11RSB0 (io), E9 IO22RSB0 (io), E10 IO26RSB0 (io), E13 IO33RSB0 (io), F8 IO08RSB0 (io), F9 IO12RSB0 (io)
part B pins: E14 IO36RSB1 (io), E15 IO38RSB1 (io), F16 IO37RSB1 (io), F17 IO41RSB1 (io), G12 IO40RSB1 (io), G14 IO39RSB1 (io), G15 IO44RSB1 (io), H14 IO45RSB1 (io), H16 GDB0/IO48RSB1 (io), H17 IO42RSB1 (io), J12 IO50RSB1 (io), J13 IO43RSB1 (io), J14 IO51RSB1 (io), J15 IO52RSB1 (io), J16 GDC0/IO46RSB1 (io), J17 GDA0/IO47RSB1 (io), K15 IO53RSB1 (io), K17 IO49RSB1 (io), L12 IO58RSB1 (io), L13 IO54RSB1 (io), M13 IO57RSB1 (io), N16 IO56RSB1 (io), N17 IO55RSB1 (io)
part C pins: M9 IO71RSB2 (io), M11 IO63RSB2 (io), N7 IO85RSB2 (io), N8 IO79RSB2 (io), N9 IO77RSB2 (io), N13 IO59RSB2 (io), P6 IO87RSB2 (io), P7 IO80RSB2 (io), P9 IO72RSB2 (io), P10 IO67RSB2 (io), P11 IO61RSB2 (io), P15 IO60RSB2 (io), P16 IO62RSB2 (io), R2 IO91RSB2 (io), R7 IO83RSB2 (io), R8 IO78RSB2 (io), R9 IO74RSB2 (io), R10 IO70RSB2 (io), T2 IO89RSB2 (io), T6 IO84RSB2 (io), T7 IO81RSB2 (io), T8 IO76RSB2 (io), T10 IO69RSB2 (io), T11 IO65RSB2 (io), T12 IO64RSB2 (io), U1 FF/IO90RSB2 (io), U4 IO88RSB2 (io), U5 IO86RSB2 (io), U6 IO82RSB2 (io), U8 IO75RSB2 (io), U9 IO73RSB2 (io), U10 IO68RSB2 (io), U11 IO66RSB2 (io)
part D pins: D2 IO119RSB3 (io), E2 IO114RSB3 (io), E3 IO115RSB3 (io), E4 IO118RSB3 (io), F1 IO111RSB3 (io), F3 IO116RSB3 (io), F5 IO117RSB3 (io), G1 IO110RSB3 (io), G3 IO113RSB3 (io), H2 GEC0/IO108RSB3 (io), H4 IO112RSB3 (io), H6 IO109RSB3 (io), J2 GEA0/IO107RSB3 (io), J4 IO105RSB3 (io), K2 GEB0/IO106RSB3 (io), K3 IO102RSB3 (io), K4 IO104RSB3 (io), K5 IO99RSB3 (io), L1 IO103RSB3 (io), L2 IO101RSB3 (io), M3 IO100RSB3 (io), M4 IO98RSB3 (io), M5 IO93RSB3 (io), M6 IO97RSB3 (io), N3 IO95RSB3 (io), N4 IO96RSB3 (io), P1 IO94RSB3 (io), T1 IO92RSB3 (io)
part E pins: R16 TMS (in), R17 TRST (in), T16 TDI (in), T17 TDO (out), U16 TCK (in)
part F pins: B7 VCCIB0 (power), B12 VCCIB0 (power), C5 VCCIB0 (power), E1 VCCIB3 (power), E11 VCCIB0 (power), E16 VCCIB1 (power), F4 VCCIB3 (power), G9 VCC (power), H15 VCCIB1 (power), J3 VCCIB3 (power), J7 VCC (power), J11 VCC (power), L9 VCC (power), L14 VCCIB1 (power), M2 VCCIB3 (power), M17 VCCIB1 (power), N10 VCCIB2 (power), P13 VCCIB2 (power), P17 VJTAG (power), R6 VCCIB2 (power), T9 VCCIB2 (power), U17 VPUMP (power)
part G pins: A4 GND (power), A9 GND (power), A14 GND (power), B2 GND (power), B17 GND (power), C10 GND (power), C15 GND (power), D3 GND (power), D8 GND (power), D13 GND (power), F14 GND (power), G2 GND (power), G7 GND (power), G8 GND (power), G10 GND (power), G11 GND (power), G17 GND (power), H7 GND (power), H8 GND (power), H9 GND (power), H10 GND (power), H11 GND (power), J8 GND (power), J9 GND (power), J10 GND (power), K1 GND (power), K7 GND (power), K8 GND (power), K9 GND (power), K10 GND (power), K11 GND (power), K16 GND (power), L4 GND (power), L7 GND (power), L8 GND (power), L10 GND (power), L11 GND (power), N5 GND (power), N15 GND (power), P3 GND (power), P8 GND (power), R1 GND (power), R11 GND (power), T4 GND (power), T14 GND (power), U2 GND (power), U7 GND (power), U12 GND (power)
part H pins: A2 NC, A3 NC, A12 NC, A13 NC, A15 NC, A16 NC, B3 NC, B4 NC, B6 NC, B13 NC, B14 NC, B15 NC, C1 NC, C4 NC, C12 NC, C13 NC, C14 NC, C17 NC, D1 NC, D5 NC, D6 NC, D7 NC, D11 NC, D12 NC, D16 NC, D17 NC, E6 NC, E12 NC, E17 NC, F2 NC, F6 NC, F7 NC, F10 NC, F11 NC, F12 NC, F13 NC, F15 NC, G4 NC, G5 NC, G6 NC, G13 NC, G16 NC, H1 NC, H3 NC, H5 NC, H12 NC, H13 NC, J1 NC, J5 NC, J6 NC, K6 NC, K12 NC, K13 NC, K14 NC, L3 NC, L5 NC, L6 NC, L15 NC, L16 NC, L17 NC, M1 NC, M7 NC, M8 NC, M10 NC, M12 NC, M14 NC, M15 NC, M16 NC, N1 NC, N2 NC, N6 NC, N11 NC, N12 NC, N14 NC, P2 NC, P4 NC, P5 NC, P12 NC, P14 NC, R3 NC, R4 NC, R5 NC, R12 NC, R13 NC, R14 NC, R15 NC, T3 NC, T5 NC, T13 NC, T15 NC, U3 NC, U13 NC, U14 NC, U15 NC
part A text: BANK 0
part B text: BANK 1
part C text: BANK 2
part D text: BANK 3